# Altium integrated library Lattice FPGA MachXO2.IntLib: 444 symbols (part 21 of 39)
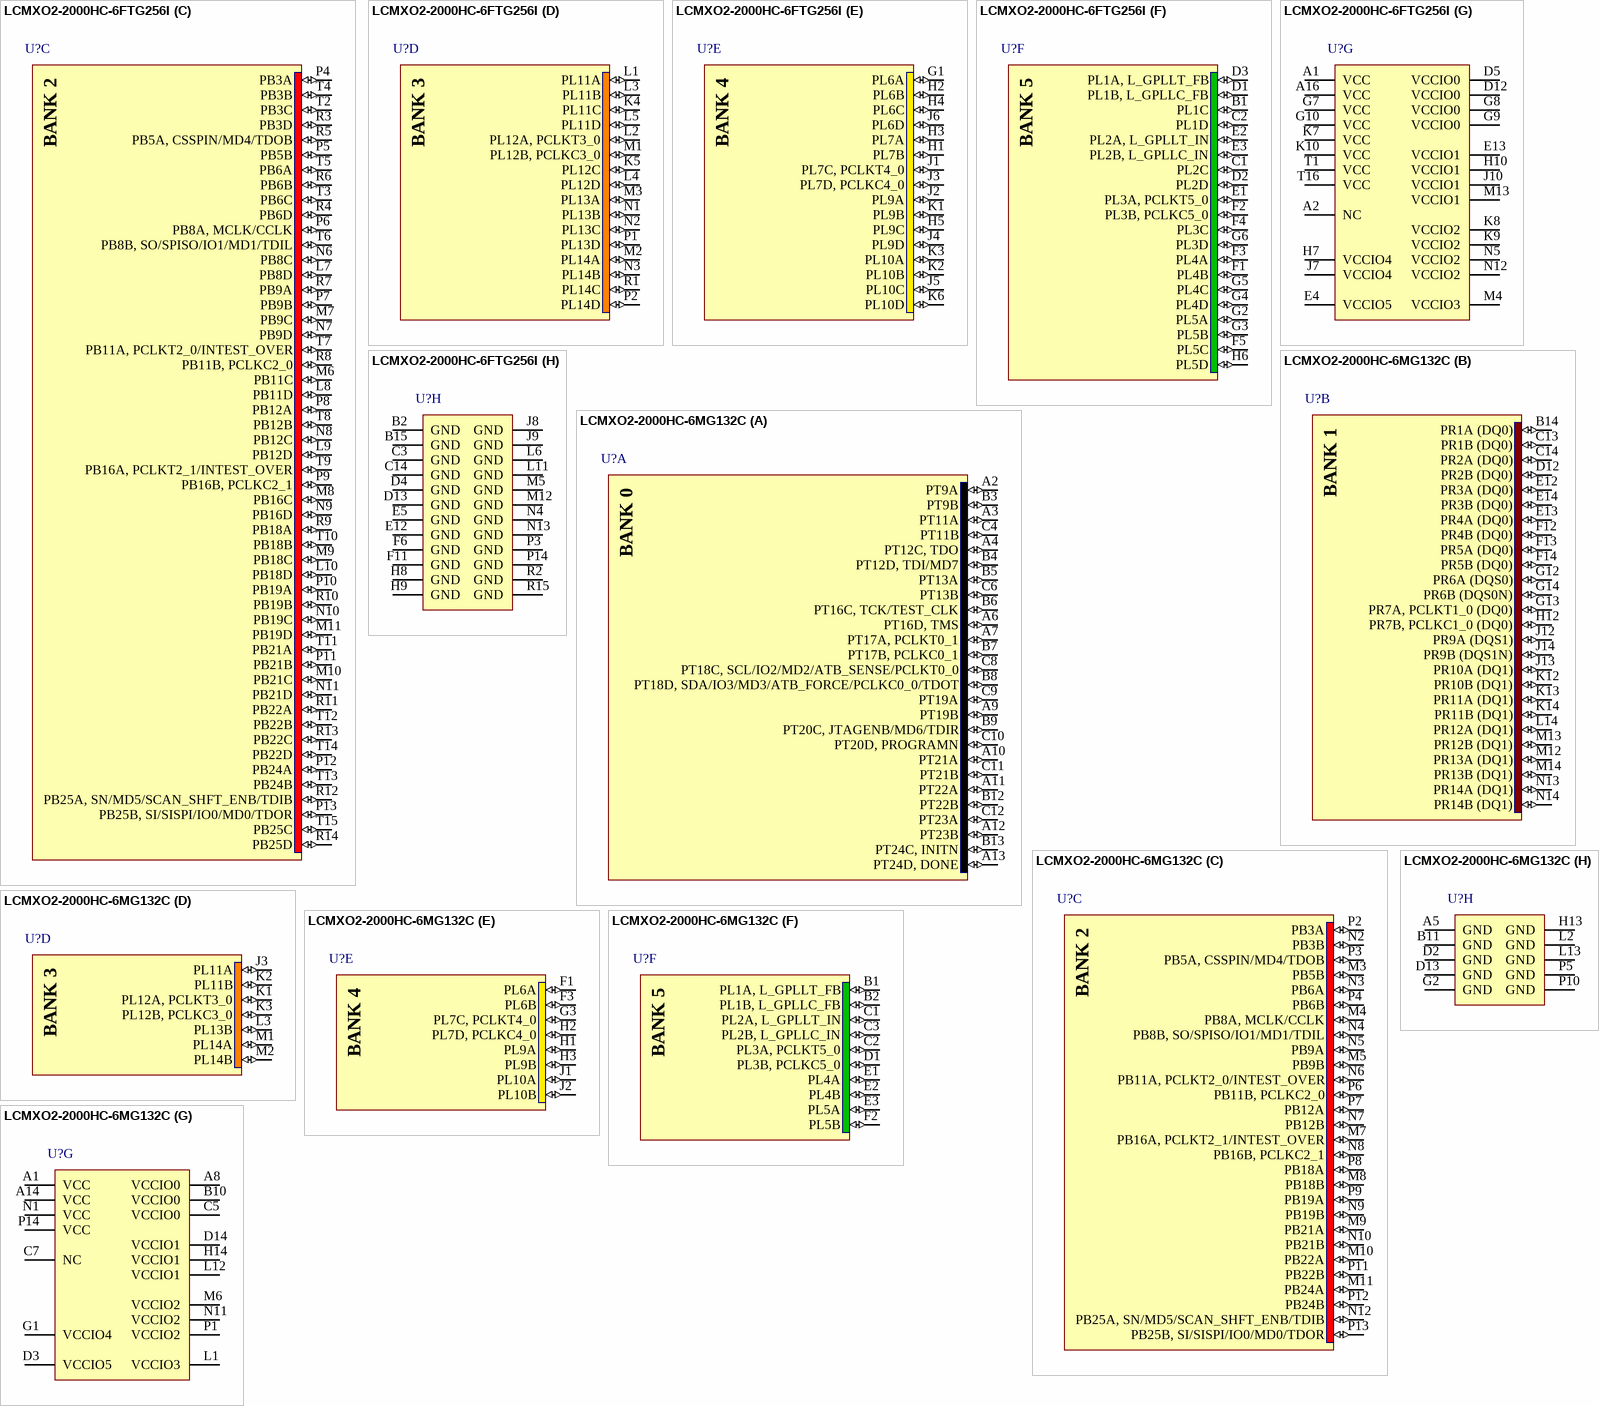
[diagram p334: symbols LCMXO2-2000HC-6FTG256I to LCMXO2-2000HC-6MG132C]

## LCMXO2-2000HC-6FTG256I
designator U?
MachXO2 High Performance CPLD with 2112 LUTs, Voltage Regulator, 2.5V/3.3V, 256-pin ftBGA, Speed Grade-6, Industrial Grade, Halogen Free (RoHS); DatasheetVersion: ver01.5, Aug-2011; PackageVersion: ver02.8, Jul-2011; PackageReference: ftBGA256; PackageDescription: 256-Ball Fine Thin Ball Grid Array (ftBGA256); ComponentLink1Description: Manufacturer URL; ComponentLink1URL: http://www.latticesemi.com/; ComponentLink2Description: Datasheet; ComponentLink2URL: http://www.latticesemi.com/documents/DS1035.pdf; ComponentLink3Description: Package Specification; ComponentLink3URL: http://www.latticesemi.com/lit/docs/package/pkg.pdf
footprint ftBGA256 (BGA, 256-Leads, Body 17x17mm, Pitch 1mm)
part A pins: A3 PT11C (io), A4 PT10A (io), A5 PT11A (io), A6 PT12D, TDI/MD7 (io), A7 PT16C, TCK/TEST_CLK (io), A8 PT17B, PCLKC0_1 (io), A9 PT18C, SCL/IO2/MD2/ATB_SENSE/PCLKT0_0 (io), A10 PT19B (io), A11 PT21A (io), A12 PT22B (io), A13 PT24C, INITN (io), A14 PT22D (io), A15 PT24B (io), B3 PT9C (io), B4 PT11D (io), B5 PT9B (io), B6 PT11B (io), B7 PT13A (io), B8 PT16D, TMS (io), B9 PT19A (io), B10 PT20D, PROGRAMN (io), B11 PT22A (io), B12 PT23B (io), B13 PT22C (io), B14 PT24A (io), C4 PT9A (io), C5 PT10B (io), C6 PT12C, TDO (io), C7 PT13B (io), C8 PT17A, PCLKT0_1 (io), C9 PT18D, SDA/IO3/MD3/ATB_FORCE/PCLKC0_0/TDOT (io), C10 PT20C, JTAGENB/MD6/TDIR (io), C11 PT21B (io), C12 PT23A (io), C13 PT24D, DONE (io), D6 PT12A (io), D7 PT13D (io), D8 PT17C (io), D9 PT18B (io), D10 PT20A (io), D11 PT21D (io), E6 PT13C (io), E7 PT12B (io), E8 PT16B (io), E9 PT17D (io), E10 PT20B (io), E11 PT19D (io), F7 PT16A (io), F8 PT18A (io), F9 PT19C (io), F10 PT21C (io)
part B pins: B16 PR1D (io), C15 PR1C (io), C16 PR2C (io), D14 PR1A (DQ0) (io), D15 PR2D (io), D16 PR2A (DQ0) (io), E14 PR2B (DQ0) (io), E15 PR1B (DQ0) (io), E16 PR3A (DQ0) (io), F12 PR4C (io), F13 PR3C (io), F14 PR4A (DQ0) (io), F15 PR3B (DQ0) (io), F16 PR4B (DQ0) (io), G11 PR5C (io), G12 PR3D (io), G13 PR4D (io), G14 PR5B (DQ0) (io), G15 PR5A (DQ0) (io), G16 PR6A (DQS0) (io), H11 PR9C (io), H12 PR5D (io), H13 PR6C (io), H14 PR7A, PCLKT1_0 (DQ0) (io), H15 PR6B (DQS0N) (io), H16 PR7B, PCLKC1_0 (DQ0) (io), J11 PR10C (io), J12 PR6D (io), J13 PR9D (io), J14 PR7D (io), J15 PR9A (DQS1) (io), J16 PR7C (io), K11 PR12C (io), K12 PR11D (DQ1) (io), K13 PR11C (DQ1) (io), K14 PR10A (DQ1) (io), K15 PR10B (DQ1) (io), K16 PR9B (DQS1N) (io), L12 PR10D (io), L13 PR12D (io), L14 PR11B (DQ1) (io), L15 PR12A (DQ1) (io), L16 PR11A (DQ1) (io), M14 PR13A (DQ1) (io), M15 PR13B (DQ1) (io), M16 PR12B (DQ1) (io), N14 PR14B (DQ1) (io), N15 PR13C (io), N16 PR14A (DQ1) (io), P15 PR14C (io), P16 PR13D (io), R16 PR14D (io)
part C pins: L7 PB8D (io), L8 PB11D (io), L9 PB12D (io), L10 PB18D (io), M6 PB11C (io), M7 PB9C (io), M8 PB16C (io), M9 PB18C (io), M10 PB21C (io), M11 PB19D (io), N6 PB8C (io), N7 PB9D (io), N8 PB12C (io), N9 PB16D (io), N10 PB19C (io), N11 PB21D (io), P4 PB3A (io), P5 PB5B (io), P6 PB8A, MCLK/CCLK (io), P7 PB9B (io), P8 PB12A (io), P9 PB16B, PCLKC2_1 (io), P10 PB19A (io), P11 PB21B (io), P12 PB24A (io), P13 PB25B, SI/SISPI/IO0/MD0/TDOR (io), R3 PB3D (io), R4 PB6D (io), R5 PB5A, CSSPIN/MD4/TDOB (io), R6 PB6B (io), R7 PB9A (io), R8 PB11B, PCLKC2_0 (io), R9 PB18A (io), R10 PB19B (io), R11 PB22A (io), R12 PB25A, SN/MD5/SCAN_SHFT_ENB/TDIB (io), R13 PB22C (io), R14 PB25D (io), T2 PB3C (io), T3 PB6C (io), T4 PB3B (io), T5 PB6A (io), T6 PB8B, SO/SPISO/IO1/MD1/TDIL (io), T7 PB11A, PCLKT2_0/INTEST_OVER (io), T8 PB12B (io), T9 PB16A, PCLKT2_1/INTEST_OVER (io), T10 PB18B (io), T11 PB21A (io), T12 PB22B (io), T13 PB24B (io), T14 PB22D (io), T15 PB25C (io)
part D pins: K4 PL11C (io), K5 PL12C (io), L1 PL11A (io), L2 PL12A, PCLKT3_0 (io), L3 PL11B (io), L4 PL12D (io), L5 PL11D (io), M1 PL12B, PCLKC3_0 (io), M2 PL14A (io), M3 PL13A (io), N1 PL13B (io), N2 PL13C (io), N3 PL14B (io), P1 PL13D (io), P2 PL14D (io), R1 PL14C (io)
part E pins: G1 PL6A (io), H1 PL7B (io), H2 PL6B (io), H3 PL7A (io), H4 PL6C (io), H5 PL9C (io), J1 PL7C, PCLKT4_0 (io), J2 PL9A (io), J3 PL7D, PCLKC4_0 (io), J4 PL9D (io), J5 PL10C (io), J6 PL6D (io), K1 PL9B (io), K2 PL10B (io), K3 PL10A (io), K6 PL10D (io)
part F pins: B1 PL1C (io), C1 PL2C (io), C2 PL1D (io), D1 PL1B, L_GPLLC_FB (io), D2 PL2D (io), D3 PL1A, L_GPLLT_FB (io), E1 PL3A, PCLKT5_0 (io), E2 PL2A, L_GPLLT_IN (io), E3 PL2B, L_GPLLC_IN (io), F1 PL4B (io), F2 PL3B, PCLKC5_0 (io), F3 PL4A (io), F4 PL3C (io), F5 PL5C (io), G2 PL5A (io), G3 PL5B (io), G4 PL4D (io), G5 PL4C (io), G6 PL3D (io), H6 PL5D (io)
part G pins: A1 VCC (power), A2 NC, A16 VCC (power), D5 VCCIO0 (power), D12 VCCIO0 (power), E4 VCCIO5 (power), E13 VCCIO1 (power), G7 VCC (power), G8 VCCIO0 (power), G9 VCCIO0 (power), G10 VCC (power), H7 VCCIO4 (power), H10 VCCIO1 (power), J7 VCCIO4 (power), J10 VCCIO1 (power), K7 VCC (power), K8 VCCIO2 (power), K9 VCCIO2 (power), K10 VCC (power), M4 VCCIO3 (power), M13 VCCIO1 (power), N5 VCCIO2 (power), N12 VCCIO2 (power), T1 VCC (power), T16 VCC (power)
part H pins: B2 GND (power), B15 GND (power), C3 GND (power), C14 GND (power), D4 GND (power), D13 GND (power), E5 GND (power), E12 GND (power), F6 GND (power), F11 GND (power), H8 GND (power), H9 GND (power), J8 GND (power), J9 GND (power), L6 GND (power), L11 GND (power), M5 GND (power), M12 GND (power), N4 GND (power), N13 GND (power), P3 GND (power), P14 GND (power), R2 GND (power), R15 GND (power)
part A text: BANK 0
part B text: BANK 1
part C text: BANK 2
part D text: BANK 3
part E text: BANK 4
part F text: BANK 5

## LCMXO2-2000HC-6MG132C
designator U?
MachXO2 High Performance CPLD with 2112 LUTs, Voltage Regulator, 2.5V/3.3V, 132-pin csBGA, Speed Grade-6, Commercial Grade, Halogen Free (RoHS); DatasheetVersion: ver01.5, Aug-2011; PackageVersion: ver02.8, Jul-2011; PackageReference: csBGA132; PackageDescription: 132-Ball Chip Scale Ball Grid Array (csBGA132); ComponentLink1Description: Manufacturer URL; ComponentLink1URL: http://www.latticesemi.com/; ComponentLink2Description: Datasheet; ComponentLink2URL: http://www.latticesemi.com/documents/DS1035.pdf; ComponentLink3Description: Package Specification; ComponentLink3URL: http://www.latticesemi.com/lit/docs/package/pkg.pdf
footprint csBGA132 (BGA, 132-Leads, Body 8x8mm, Pitch 0.5mm)
part A pins: A2 PT9A (io), A3 PT11A (io), A4 PT12C, TDO (io), A6 PT16D, TMS (io), A7 PT17A, PCLKT0_1 (io), A9 PT19B (io), A10 PT21A (io), A11 PT22A (io), A12 PT23B (io), A13 PT24D, DONE (io), B3 PT9B (io), B4 PT12D, TDI/MD7 (io), B5 PT13A (io), B6 PT16C, TCK/TEST_CLK (io), B7 PT17B, PCLKC0_1 (io), B8 PT18D, SDA/IO3/MD3/ATB_FORCE/PCLKC0_0/TDOT (io), B9 PT20C, JTAGENB/MD6/TDIR (io), B12 PT22B (io), B13 PT24C, INITN (io), C4 PT11B (io), C6 PT13B (io), C8 PT18C, SCL/IO2/MD2/ATB_SENSE/PCLKT0_0 (io), C9 PT19A (io), C10 PT20D, PROGRAMN (io), C11 PT21B (io), C12 PT23A (io)
part B pins: B14 PR1A (DQ0) (io), C13 PR1B (DQ0) (io), C14 PR2A (DQ0) (io), D12 PR2B (DQ0) (io), E12 PR3A (DQ0) (io), E13 PR4A (DQ0) (io), E14 PR3B (DQ0) (io), F12 PR4B (DQ0) (io), F13 PR5A (DQ0) (io), F14 PR5B (DQ0) (io), G12 PR6A (DQS0) (io), G13 PR7A, PCLKT1_0 (DQ0) (io), G14 PR6B (DQS0N) (io), H12 PR7B, PCLKC1_0 (DQ0) (io), J12 PR9A (DQS1) (io), J13 PR10A (DQ1) (io), J14 PR9B (DQS1N) (io), K12 PR10B (DQ1) (io), K13 PR11A (DQ1) (io), K14 PR11B (DQ1) (io), L14 PR12A (DQ1) (io), M12 PR13A (DQ1) (io), M13 PR12B (DQ1) (io), M14 PR13B (DQ1) (io), N13 PR14A (DQ1) (io), N14 PR14B (DQ1) (io)
part C pins: M3 PB5B (io), M4 PB8A, MCLK/CCLK (io), M5 PB9B (io), M7 PB16A, PCLKT2_1/INTEST_OVER (io), M8 PB18B (io), M9 PB21A (io), M10 PB22A (io), M11 PB24A (io), N2 PB3B (io), N3 PB6A (io), N4 PB8B, SO/SPISO/IO1/MD1/TDIL (io), N5 PB9A (io), N6 PB11A, PCLKT2_0/INTEST_OVER (io), N7 PB12B (io), N8 PB16B, PCLKC2_1 (io), N9 PB19B (io), N10 PB21B (io), N12 PB25A, SN/MD5/SCAN_SHFT_ENB/TDIB (io), P2 PB3A (io), P3 PB5A, CSSPIN/MD4/TDOB (io), P4 PB6B (io), P6 PB11B, PCLKC2_0 (io), P7 PB12A (io), P8 PB18A (io), P9 PB19A (io), P11 PB22B (io), P12 PB24B (io), P13 PB25B, SI/SISPI/IO0/MD0/TDOR (io)
part D pins: J3 PL11A (io), K1 PL12A, PCLKT3_0 (io), K2 PL11B (io), K3 PL12B, PCLKC3_0 (io), L3 PL13B (io), M1 PL14A (io), M2 PL14B (io)
part E pins: F1 PL6A (io), F3 PL6B (io), G3 PL7C, PCLKT4_0 (io), H1 PL9A (io), H2 PL7D, PCLKC4_0 (io), H3 PL9B (io), J1 PL10A (io), J2 PL10B (io)
part F pins: B1 PL1A, L_GPLLT_FB (io), B2 PL1B, L_GPLLC_FB (io), C1 PL2A, L_GPLLT_IN (io), C2 PL3A, PCLKT5_0 (io), C3 PL2B, L_GPLLC_IN (io), D1 PL3B, PCLKC5_0 (io), E1 PL4A (io), E2 PL4B (io), E3 PL5A (io), F2 PL5B (io)
part G pins: A1 VCC (power), A8 VCCIO0 (power), A14 VCC (power), B10 VCCIO0 (power), C5 VCCIO0 (power), C7 NC, D3 VCCIO5 (power), D14 VCCIO1 (power), G1 VCCIO4 (power), H14 VCCIO1 (power), L1 VCCIO3 (power), L12 VCCIO1 (power), M6 VCCIO2 (power), N1 VCC (power), N11 VCCIO2 (power), P1 VCCIO2 (power), P14 VCC (power)
part H pins: A5 GND (power), B11 GND (power), D2 GND (power), D13 GND (power), G2 GND (power), H13 GND (power), L2 GND (power), L13 GND (power), P5 GND (power), P10 GND (power)
part A text: BANK 0
part B text: BANK 1
part C text: BANK 2
part D text: BANK 3
part E text: BANK 4
part F text: BANK 5

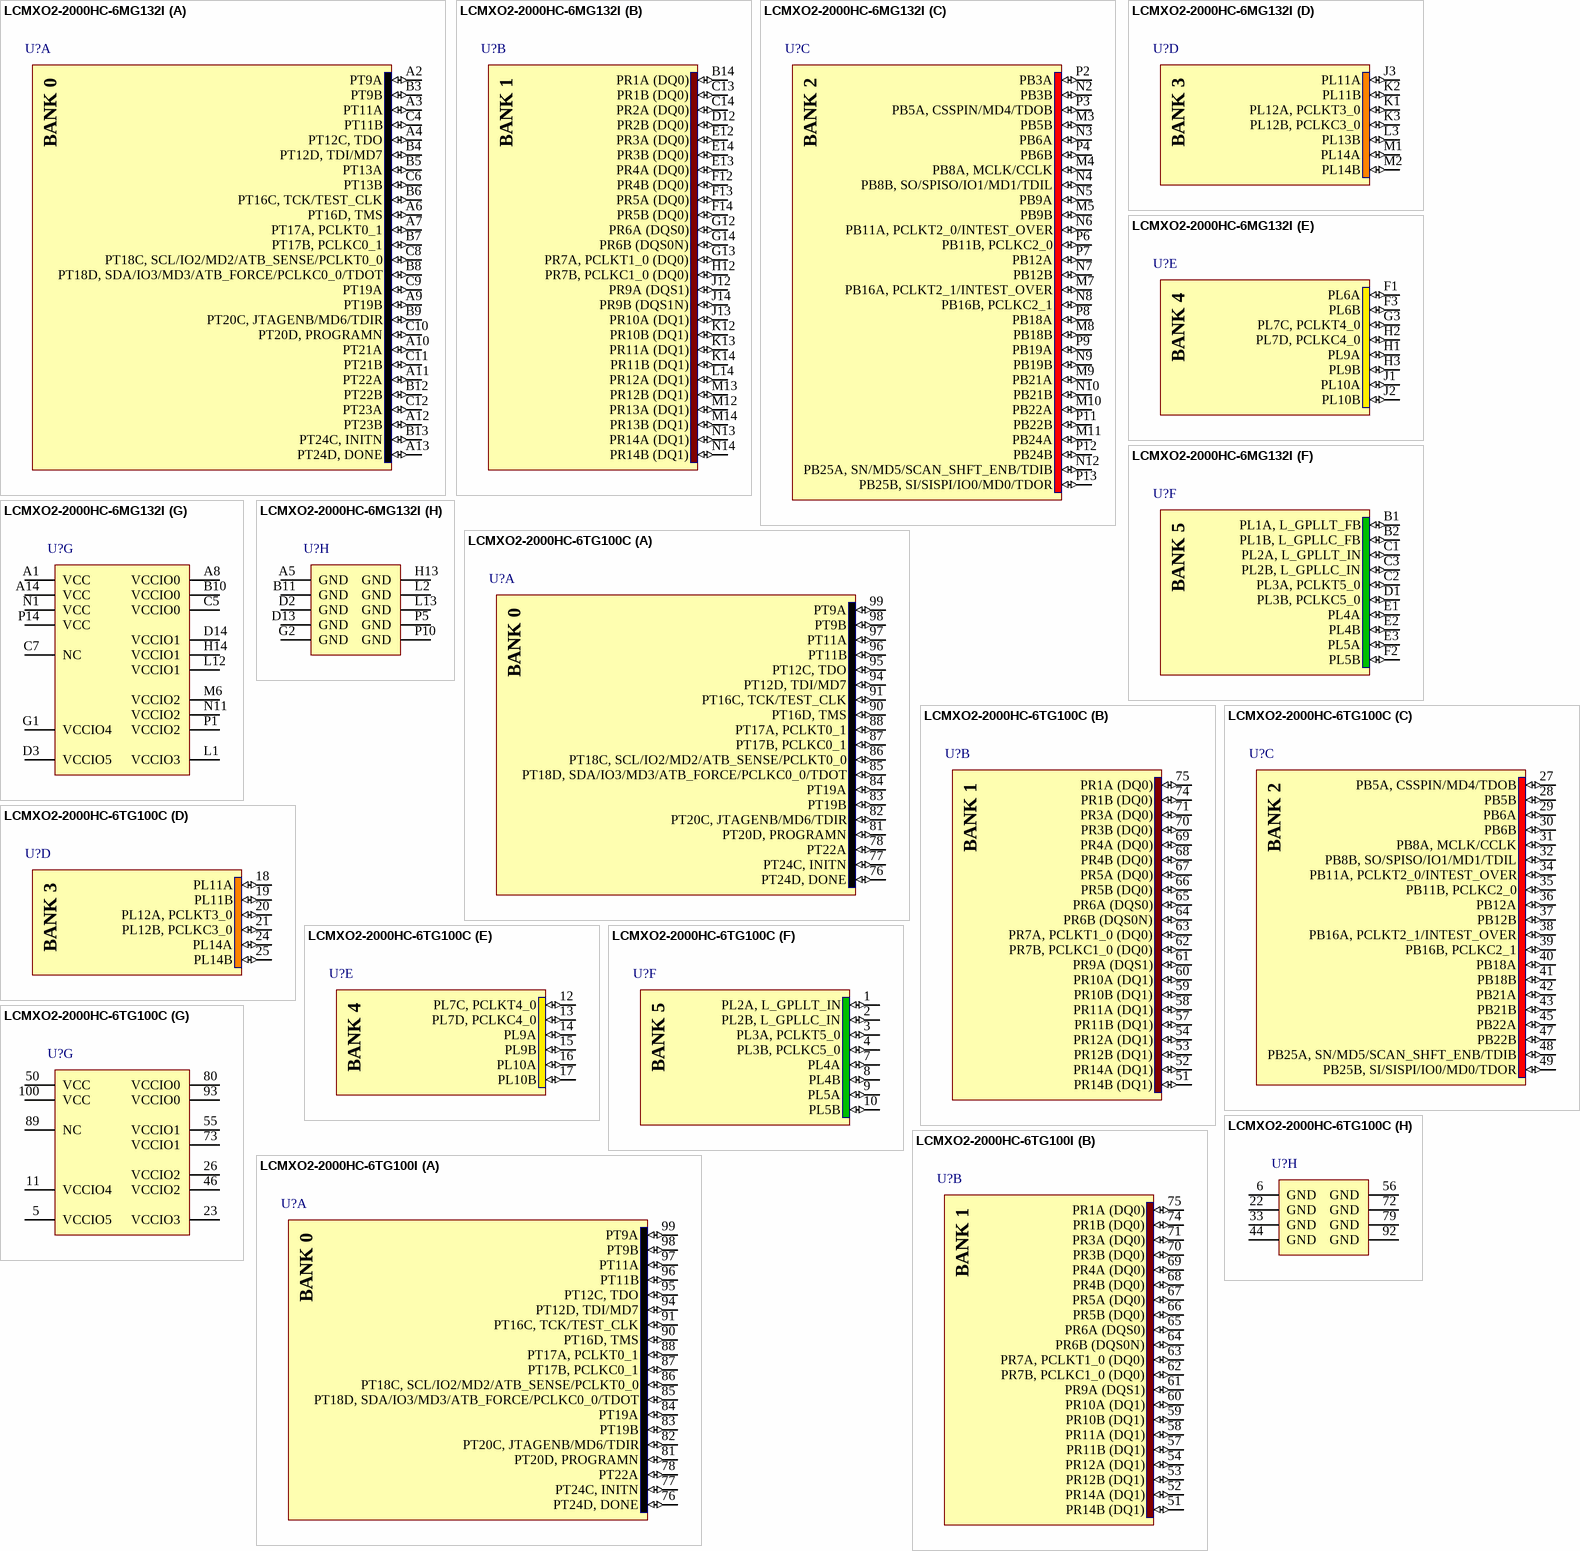
[diagram p77: symbols LCMXO2-2000HC-6MG132I to LCMXO2-2000HC-6TG100I]

## LCMXO2-2000HC-6MG132I
designator U?
MachXO2 High Performance CPLD with 2112 LUTs, Voltage Regulator, 2.5V/3.3V, 132-pin csBGA, Speed Grade-6, Industrial Grade, Halogen Free (RoHS); DatasheetVersion: ver01.5, Aug-2011; PackageVersion: ver02.8, Jul-2011; PackageReference: csBGA132; PackageDescription: 132-Ball Chip Scale Ball Grid Array (csBGA132); ComponentLink1Description: Manufacturer URL; ComponentLink1URL: http://www.latticesemi.com/; ComponentLink2Description: Datasheet; ComponentLink2URL: http://www.latticesemi.com/documents/DS1035.pdf; ComponentLink3Description: Package Specification; ComponentLink3URL: http://www.latticesemi.com/lit/docs/package/pkg.pdf
footprint csBGA132 (BGA, 132-Leads, Body 8x8mm, Pitch 0.5mm)
part A pins: A2 PT9A (io), A3 PT11A (io), A4 PT12C, TDO (io), A6 PT16D, TMS (io), A7 PT17A, PCLKT0_1 (io), A9 PT19B (io), A10 PT21A (io), A11 PT22A (io), A12 PT23B (io), A13 PT24D, DONE (io), B3 PT9B (io), B4 PT12D, TDI/MD7 (io), B5 PT13A (io), B6 PT16C, TCK/TEST_CLK (io), B7 PT17B, PCLKC0_1 (io), B8 PT18D, SDA/IO3/MD3/ATB_FORCE/PCLKC0_0/TDOT (io), B9 PT20C, JTAGENB/MD6/TDIR (io), B12 PT22B (io), B13 PT24C, INITN (io), C4 PT11B (io), C6 PT13B (io), C8 PT18C, SCL/IO2/MD2/ATB_SENSE/PCLKT0_0 (io), C9 PT19A (io), C10 PT20D, PROGRAMN (io), C11 PT21B (io), C12 PT23A (io)
part B pins: B14 PR1A (DQ0) (io), C13 PR1B (DQ0) (io), C14 PR2A (DQ0) (io), D12 PR2B (DQ0) (io), E12 PR3A (DQ0) (io), E13 PR4A (DQ0) (io), E14 PR3B (DQ0) (io), F12 PR4B (DQ0) (io), F13 PR5A (DQ0) (io), F14 PR5B (DQ0) (io), G12 PR6A (DQS0) (io), G13 PR7A, PCLKT1_0 (DQ0) (io), G14 PR6B (DQS0N) (io), H12 PR7B, PCLKC1_0 (DQ0) (io), J12 PR9A (DQS1) (io), J13 PR10A (DQ1) (io), J14 PR9B (DQS1N) (io), K12 PR10B (DQ1) (io), K13 PR11A (DQ1) (io), K14 PR11B (DQ1) (io), L14 PR12A (DQ1) (io), M12 PR13A (DQ1) (io), M13 PR12B (DQ1) (io), M14 PR13B (DQ1) (io), N13 PR14A (DQ1) (io), N14 PR14B (DQ1) (io)
part C pins: M3 PB5B (io), M4 PB8A, MCLK/CCLK (io), M5 PB9B (io), M7 PB16A, PCLKT2_1/INTEST_OVER (io), M8 PB18B (io), M9 PB21A (io), M10 PB22A (io), M11 PB24A (io), N2 PB3B (io), N3 PB6A (io), N4 PB8B, SO/SPISO/IO1/MD1/TDIL (io), N5 PB9A (io), N6 PB11A, PCLKT2_0/INTEST_OVER (io), N7 PB12B (io), N8 PB16B, PCLKC2_1 (io), N9 PB19B (io), N10 PB21B (io), N12 PB25A, SN/MD5/SCAN_SHFT_ENB/TDIB (io), P2 PB3A (io), P3 PB5A, CSSPIN/MD4/TDOB (io), P4 PB6B (io), P6 PB11B, PCLKC2_0 (io), P7 PB12A (io), P8 PB18A (io), P9 PB19A (io), P11 PB22B (io), P12 PB24B (io), P13 PB25B, SI/SISPI/IO0/MD0/TDOR (io)
part D pins: J3 PL11A (io), K1 PL12A, PCLKT3_0 (io), K2 PL11B (io), K3 PL12B, PCLKC3_0 (io), L3 PL13B (io), M1 PL14A (io), M2 PL14B (io)
part E pins: F1 PL6A (io), F3 PL6B (io), G3 PL7C, PCLKT4_0 (io), H1 PL9A (io), H2 PL7D, PCLKC4_0 (io), H3 PL9B (io), J1 PL10A (io), J2 PL10B (io)
part F pins: B1 PL1A, L_GPLLT_FB (io), B2 PL1B, L_GPLLC_FB (io), C1 PL2A, L_GPLLT_IN (io), C2 PL3A, PCLKT5_0 (io), C3 PL2B, L_GPLLC_IN (io), D1 PL3B, PCLKC5_0 (io), E1 PL4A (io), E2 PL4B (io), E3 PL5A (io), F2 PL5B (io)
part G pins: A1 VCC (power), A8 VCCIO0 (power), A14 VCC (power), B10 VCCIO0 (power), C5 VCCIO0 (power), C7 NC, D3 VCCIO5 (power), D14 VCCIO1 (power), G1 VCCIO4 (power), H14 VCCIO1 (power), L1 VCCIO3 (power), L12 VCCIO1 (power), M6 VCCIO2 (power), N1 VCC (power), N11 VCCIO2 (power), P1 VCCIO2 (power), P14 VCC (power)
part H pins: A5 GND (power), B11 GND (power), D2 GND (power), D13 GND (power), G2 GND (power), H13 GND (power), L2 GND (power), L13 GND (power), P5 GND (power), P10 GND (power)
part A text: BANK 0
part B text: BANK 1
part C text: BANK 2
part D text: BANK 3
part E text: BANK 4
part F text: BANK 5

## LCMXO2-2000HC-6TG100C
designator U?
MachXO2 High Performance CPLD with 2112 LUTs, Voltage Regulator, 2.5V/3.3V, 100-pin TQFP, Speed Grade-6, Commercial Grade, Halogen Free (RoHS); DatasheetVersion: ver01.5, Aug-2011; PackageVersion: ver02.8, Jul-2011; PackageReference: TQFP100; PackageDescription: 100-Pin Thin Quad Flat Pack (TQFP100); Code_JEDEC: MS-026-BED; ComponentLink1Description: Manufacturer URL; ComponentLink1URL: http://www.latticesemi.com/; ComponentLink2Description: Datasheet; ComponentLink2URL: http://www.latticesemi.com/documents/DS1035.pdf; ComponentLink3Description: Package Specification; ComponentLink3URL: http://www.latticesemi.com/lit/docs/package/pkg.pdf
footprint TQFP100_N (Thin QFP, 100-Leads, Body 14x14mm, Pitch 0.5mm, IPC Medium Density)
footprint TQFP100_L (Thin QFP, 100-Leads, Body 14x14mm, Pitch 0.5mm, IPC High Density)
footprint TQFP100_M (Thin QFP, 100-Leads, Body 14x14mm, Pitch 0.5mm, IPC Low Density)
part A pins: 76 PT24D, DONE (io), 77 PT24C, INITN (io), 78 PT22A (io), 81 PT20D, PROGRAMN (io), 82 PT20C, JTAGENB/MD6/TDIR (io), 83 PT19B (io), 84 PT19A (io), 85 PT18D, SDA/IO3/MD3/ATB_FORCE/PCLKC0_0/TDOT (io), 86 PT18C, SCL/IO2/MD2/ATB_SENSE/PCLKT0_0 (io), 87 PT17B, PCLKC0_1 (io), 88 PT17A, PCLKT0_1 (io), 90 PT16D, TMS (io), 91 PT16C, TCK/TEST_CLK (io), 94 PT12D, TDI/MD7 (io), 95 PT12C, TDO (io), 96 PT11B (io), 97 PT11A (io), 98 PT9B (io), 99 PT9A (io)
part B pins: 51 PR14B (DQ1) (io), 52 PR14A (DQ1) (io), 53 PR12B (DQ1) (io), 54 PR12A (DQ1) (io), 57 PR11B (DQ1) (io), 58 PR11A (DQ1) (io), 59 PR10B (DQ1) (io), 60 PR10A (DQ1) (io), 61 PR9A (DQS1) (io), 62 PR7B, PCLKC1_0 (DQ0) (io), 63 PR7A, PCLKT1_0 (DQ0) (io), 64 PR6B (DQS0N) (io), 65 PR6A (DQS0) (io), 66 PR5B (DQ0) (io), 67 PR5A (DQ0) (io), 68 PR4B (DQ0) (io), 69 PR4A (DQ0) (io), 70 PR3B (DQ0) (io), 71 PR3A (DQ0) (io), 74 PR1B (DQ0) (io), 75 PR1A (DQ0) (io)
part C pins: 27 PB5A, CSSPIN/MD4/TDOB (io), 28 PB5B (io), 29 PB6A (io), 30 PB6B (io), 31 PB8A, MCLK/CCLK (io), 32 PB8B, SO/SPISO/IO1/MD1/TDIL (io), 34 PB11A, PCLKT2_0/INTEST_OVER (io), 35 PB11B, PCLKC2_0 (io), 36 PB12A (io), 37 PB12B (io), 38 PB16A, PCLKT2_1/INTEST_OVER (io), 39 PB16B, PCLKC2_1 (io), 40 PB18A (io), 41 PB18B (io), 42 PB21A (io), 43 PB21B (io), 45 PB22A (io), 47 PB22B (io), 48 PB25A, SN/MD5/SCAN_SHFT_ENB/TDIB (io), 49 PB25B, SI/SISPI/IO0/MD0/TDOR (io)
part D pins: 18 PL11A (io), 19 PL11B (io), 20 PL12A, PCLKT3_0 (io), 21 PL12B, PCLKC3_0 (io), 24 PL14A (io), 25 PL14B (io)
part E pins: 12 PL7C, PCLKT4_0 (io), 13 PL7D, PCLKC4_0 (io), 14 PL9A (io), 15 PL9B (io), 16 PL10A (io), 17 PL10B (io)
part F pins: 1 PL2A, L_GPLLT_IN (io), 2 PL2B, L_GPLLC_IN (io), 3 PL3A, PCLKT5_0 (io), 4 PL3B, PCLKC5_0 (io), 7 PL4A (io), 8 PL4B (io), 9 PL5A (io), 10 PL5B (io)
part G pins: 5 VCCIO5 (power), 11 VCCIO4 (power), 23 VCCIO3 (power), 26 VCCIO2 (power), 46 VCCIO2 (power), 50 VCC (power), 55 VCCIO1 (power), 73 VCCIO1 (power), 80 VCCIO0 (power), 89 NC, 93 VCCIO0 (power), 100 VCC (power)
part H pins: 6 GND (power), 22 GND (power), 33 GND (power), 44 GND (power), 56 GND (power), 72 GND (power), 79 GND (power), 92 GND (power)
part A text: BANK 0
part B text: BANK 1
part C text: BANK 2
part D text: BANK 3
part E text: BANK 4
part F text: BANK 5

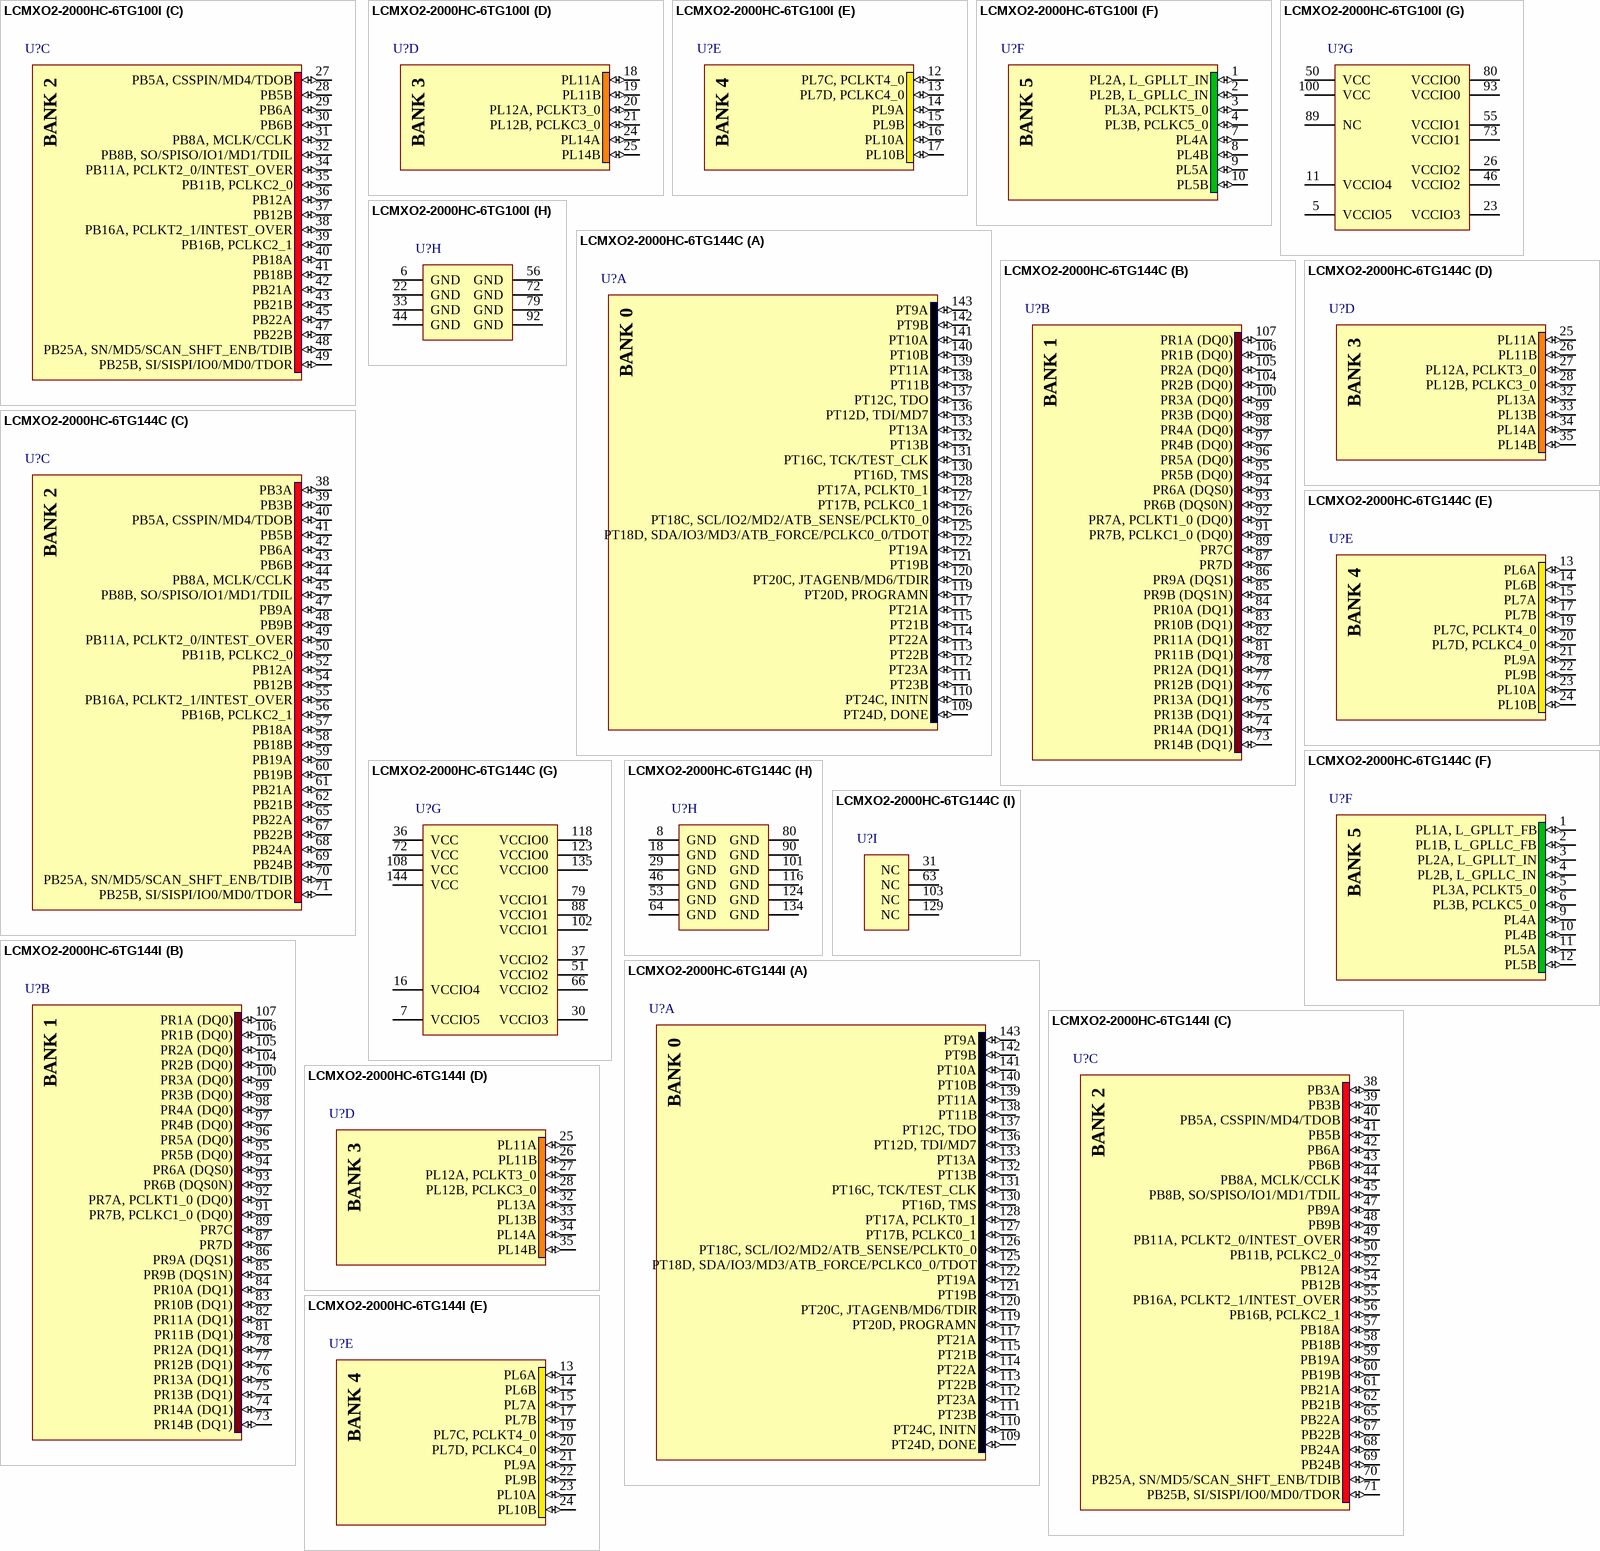
[diagram p78: symbols LCMXO2-2000HC-6TG100I to LCMXO2-2000HC-6TG144I]

## LCMXO2-2000HC-6TG100I
designator U?
MachXO2 High Performance CPLD with 2112 LUTs, Voltage Regulator, 2.5V/3.3V, 100-pin TQFP, Speed Grade-6, Industrial Grade, Halogen Free (RoHS); DatasheetVersion: ver01.5, Aug-2011; PackageVersion: ver02.8, Jul-2011; PackageReference: TQFP100; PackageDescription: 100-Pin Thin Quad Flat Pack (TQFP100); Code_JEDEC: MS-026-BED; ComponentLink1Description: Manufacturer URL; ComponentLink1URL: http://www.latticesemi.com/; ComponentLink2Description: Datasheet; ComponentLink2URL: http://www.latticesemi.com/documents/DS1035.pdf; ComponentLink3Description: Package Specification; ComponentLink3URL: http://www.latticesemi.com/lit/docs/package/pkg.pdf
footprint TQFP100_N (Thin QFP, 100-Leads, Body 14x14mm, Pitch 0.5mm, IPC Medium Density)
footprint TQFP100_L (Thin QFP, 100-Leads, Body 14x14mm, Pitch 0.5mm, IPC High Density)
footprint TQFP100_M (Thin QFP, 100-Leads, Body 14x14mm, Pitch 0.5mm, IPC Low Density)
part A pins: 76 PT24D, DONE (io), 77 PT24C, INITN (io), 78 PT22A (io), 81 PT20D, PROGRAMN (io), 82 PT20C, JTAGENB/MD6/TDIR (io), 83 PT19B (io), 84 PT19A (io), 85 PT18D, SDA/IO3/MD3/ATB_FORCE/PCLKC0_0/TDOT (io), 86 PT18C, SCL/IO2/MD2/ATB_SENSE/PCLKT0_0 (io), 87 PT17B, PCLKC0_1 (io), 88 PT17A, PCLKT0_1 (io), 90 PT16D, TMS (io), 91 PT16C, TCK/TEST_CLK (io), 94 PT12D, TDI/MD7 (io), 95 PT12C, TDO (io), 96 PT11B (io), 97 PT11A (io), 98 PT9B (io), 99 PT9A (io)
part B pins: 51 PR14B (DQ1) (io), 52 PR14A (DQ1) (io), 53 PR12B (DQ1) (io), 54 PR12A (DQ1) (io), 57 PR11B (DQ1) (io), 58 PR11A (DQ1) (io), 59 PR10B (DQ1) (io), 60 PR10A (DQ1) (io), 61 PR9A (DQS1) (io), 62 PR7B, PCLKC1_0 (DQ0) (io), 63 PR7A, PCLKT1_0 (DQ0) (io), 64 PR6B (DQS0N) (io), 65 PR6A (DQS0) (io), 66 PR5B (DQ0) (io), 67 PR5A (DQ0) (io), 68 PR4B (DQ0) (io), 69 PR4A (DQ0) (io), 70 PR3B (DQ0) (io), 71 PR3A (DQ0) (io), 74 PR1B (DQ0) (io), 75 PR1A (DQ0) (io)
part C pins: 27 PB5A, CSSPIN/MD4/TDOB (io), 28 PB5B (io), 29 PB6A (io), 30 PB6B (io), 31 PB8A, MCLK/CCLK (io), 32 PB8B, SO/SPISO/IO1/MD1/TDIL (io), 34 PB11A, PCLKT2_0/INTEST_OVER (io), 35 PB11B, PCLKC2_0 (io), 36 PB12A (io), 37 PB12B (io), 38 PB16A, PCLKT2_1/INTEST_OVER (io), 39 PB16B, PCLKC2_1 (io), 40 PB18A (io), 41 PB18B (io), 42 PB21A (io), 43 PB21B (io), 45 PB22A (io), 47 PB22B (io), 48 PB25A, SN/MD5/SCAN_SHFT_ENB/TDIB (io), 49 PB25B, SI/SISPI/IO0/MD0/TDOR (io)
part D pins: 18 PL11A (io), 19 PL11B (io), 20 PL12A, PCLKT3_0 (io), 21 PL12B, PCLKC3_0 (io), 24 PL14A (io), 25 PL14B (io)
part E pins: 12 PL7C, PCLKT4_0 (io), 13 PL7D, PCLKC4_0 (io), 14 PL9A (io), 15 PL9B (io), 16 PL10A (io), 17 PL10B (io)
part F pins: 1 PL2A, L_GPLLT_IN (io), 2 PL2B, L_GPLLC_IN (io), 3 PL3A, PCLKT5_0 (io), 4 PL3B, PCLKC5_0 (io), 7 PL4A (io), 8 PL4B (io), 9 PL5A (io), 10 PL5B (io)
part G pins: 5 VCCIO5 (power), 11 VCCIO4 (power), 23 VCCIO3 (power), 26 VCCIO2 (power), 46 VCCIO2 (power), 50 VCC (power), 55 VCCIO1 (power), 73 VCCIO1 (power), 80 VCCIO0 (power), 89 NC, 93 VCCIO0 (power), 100 VCC (power)
part H pins: 6 GND (power), 22 GND (power), 33 GND (power), 44 GND (power), 56 GND (power), 72 GND (power), 79 GND (power), 92 GND (power)
part A text: BANK 0
part B text: BANK 1
part C text: BANK 2
part D text: BANK 3
part E text: BANK 4
part F text: BANK 5

## LCMXO2-2000HC-6TG144C
designator U?
MachXO2 High Performance CPLD with 2112 LUTs, Voltage Regulator, 2.5V/3.3V, 144-pin TQFP, Speed Grade-6, Commercial Grade, Halogen Free (RoHS); DatasheetVersion: ver01.5, Aug-2011; PackageVersion: ver02.8, Jul-2011; PackageReference: TQFP144; PackageDescription: 144-Pin Thin Quad Flat Pack (TQFP144); Code_JEDEC: MS-026-BFB; ComponentLink1Description: Manufacturer URL; ComponentLink1URL: http://www.latticesemi.com/; ComponentLink2Description: Datasheet; ComponentLink2URL: http://www.latticesemi.com/documents/DS1035.pdf; ComponentLink3Description: Package Specification; ComponentLink3URL: http://www.latticesemi.com/lit/docs/package/pkg.pdf
footprint TQFP144_N (Thin QFP, 144-Leads, Body 20x20mm, Pitch 0.5mm, IPC Medium Density)
footprint TQFP144_L (Thin QFP, 144-Leads, Body 20x20mm, Pitch 0.5mm, IPC High Density)
footprint TQFP144_M (Thin QFP, 144-Leads, Body 20x20mm, Pitch 0.5mm, IPC Low Density)
part A pins: 109 PT24D, DONE (io), 110 PT24C, INITN (io), 111 PT23B (io), 112 PT23A (io), 113 PT22B (io), 114 PT22A (io), 115 PT21B (io), 117 PT21A (io), 119 PT20D, PROGRAMN (io), 120 PT20C, JTAGENB/MD6/TDIR (io), 121 PT19B (io), 122 PT19A (io), 125 PT18D, SDA/IO3/MD3/ATB_FORCE/PCLKC0_0/TDOT (io), 126 PT18C, SCL/IO2/MD2/ATB_SENSE/PCLKT0_0 (io), 127 PT17B, PCLKC0_1 (io), 128 PT17A, PCLKT0_1 (io), 130 PT16D, TMS (io), 131 PT16C, TCK/TEST_CLK (io), 132 PT13B (io), 133 PT13A (io), 136 PT12D, TDI/MD7 (io), 137 PT12C, TDO (io), 138 PT11B (io), 139 PT11A (io), 140 PT10B (io), 141 PT10A (io), 142 PT9B (io), 143 PT9A (io)
part B pins: 73 PR14B (DQ1) (io), 74 PR14A (DQ1) (io), 75 PR13B (DQ1) (io), 76 PR13A (DQ1) (io), 77 PR12B (DQ1) (io), 78 PR12A (DQ1) (io), 81 PR11B (DQ1) (io), 82 PR11A (DQ1) (io), 83 PR10B (DQ1) (io), 84 PR10A (DQ1) (io), 85 PR9B (DQS1N) (io), 86 PR9A (DQS1) (io), 87 PR7D (io), 89 PR7C (io), 91 PR7B, PCLKC1_0 (DQ0) (io), 92 PR7A, PCLKT1_0 (DQ0) (io), 93 PR6B (DQS0N) (io), 94 PR6A (DQS0) (io), 95 PR5B (DQ0) (io), 96 PR5A (DQ0) (io), 97 PR4B (DQ0) (io), 98 PR4A (DQ0) (io), 99 PR3B (DQ0) (io), 100 PR3A (DQ0) (io), 104 PR2B (DQ0) (io), 105 PR2A (DQ0) (io), 106 PR1B (DQ0) (io), 107 PR1A (DQ0) (io)
part C pins: 38 PB3A (io), 39 PB3B (io), 40 PB5A, CSSPIN/MD4/TDOB (io), 41 PB5B (io), 42 PB6A (io), 43 PB6B (io), 44 PB8A, MCLK/CCLK (io), 45 PB8B, SO/SPISO/IO1/MD1/TDIL (io), 47 PB9A (io), 48 PB9B (io), 49 PB11A, PCLKT2_0/INTEST_OVER (io), 50 PB11B, PCLKC2_0 (io), 52 PB12A (io), 54 PB12B (io), 55 PB16A, PCLKT2_1/INTEST_OVER (io), 56 PB16B, PCLKC2_1 (io), 57 PB18A (io), 58 PB18B (io), 59 PB19A (io), 60 PB19B (io), 61 PB21A (io), 62 PB21B (io), 65 PB22A (io), 67 PB22B (io), 68 PB24A (io), 69 PB24B (io), 70 PB25A, SN/MD5/SCAN_SHFT_ENB/TDIB (io), 71 PB25B, SI/SISPI/IO0/MD0/TDOR (io)
part D pins: 25 PL11A (io), 26 PL11B (io), 27 PL12A, PCLKT3_0 (io), 28 PL12B, PCLKC3_0 (io), 32 PL13A (io), 33 PL13B (io), 34 PL14A (io), 35 PL14B (io)
part E pins: 13 PL6A (io), 14 PL6B (io), 15 PL7A (io), 17 PL7B (io), 19 PL7C, PCLKT4_0 (io), 20 PL7D, PCLKC4_0 (io), 21 PL9A (io), 22 PL9B (io), 23 PL10A (io), 24 PL10B (io)
part F pins: 1 PL1A, L_GPLLT_FB (io), 2 PL1B, L_GPLLC_FB (io), 3 PL2A, L_GPLLT_IN (io), 4 PL2B, L_GPLLC_IN (io), 5 PL3A, PCLKT5_0 (io), 6 PL3B, PCLKC5_0 (io), 9 PL4A (io), 10 PL4B (io), 11 PL5A (io), 12 PL5B (io)
part G pins: 7 VCCIO5 (power), 16 VCCIO4 (power), 30 VCCIO3 (power), 36 VCC (power), 37 VCCIO2 (power), 51 VCCIO2 (power), 66 VCCIO2 (power), 72 VCC (power), 79 VCCIO1 (power), 88 VCCIO1 (power), 102 VCCIO1 (power), 108 VCC (power), 118 VCCIO0 (power), 123 VCCIO0 (power), 135 VCCIO0 (power), 144 VCC (power)
part H pins: 8 GND (power), 18 GND (power), 29 GND (power), 46 GND (power), 53 GND (power), 64 GND (power), 80 GND (power), 90 GND (power), 101 GND (power), 116 GND (power), 124 GND (power), 134 GND (power)
part I pins: 31 NC, 63 NC, 103 NC, 129 NC
part A text: BANK 0
part B text: BANK 1
part C text: BANK 2
part D text: BANK 3
part E text: BANK 4
part F text: BANK 5

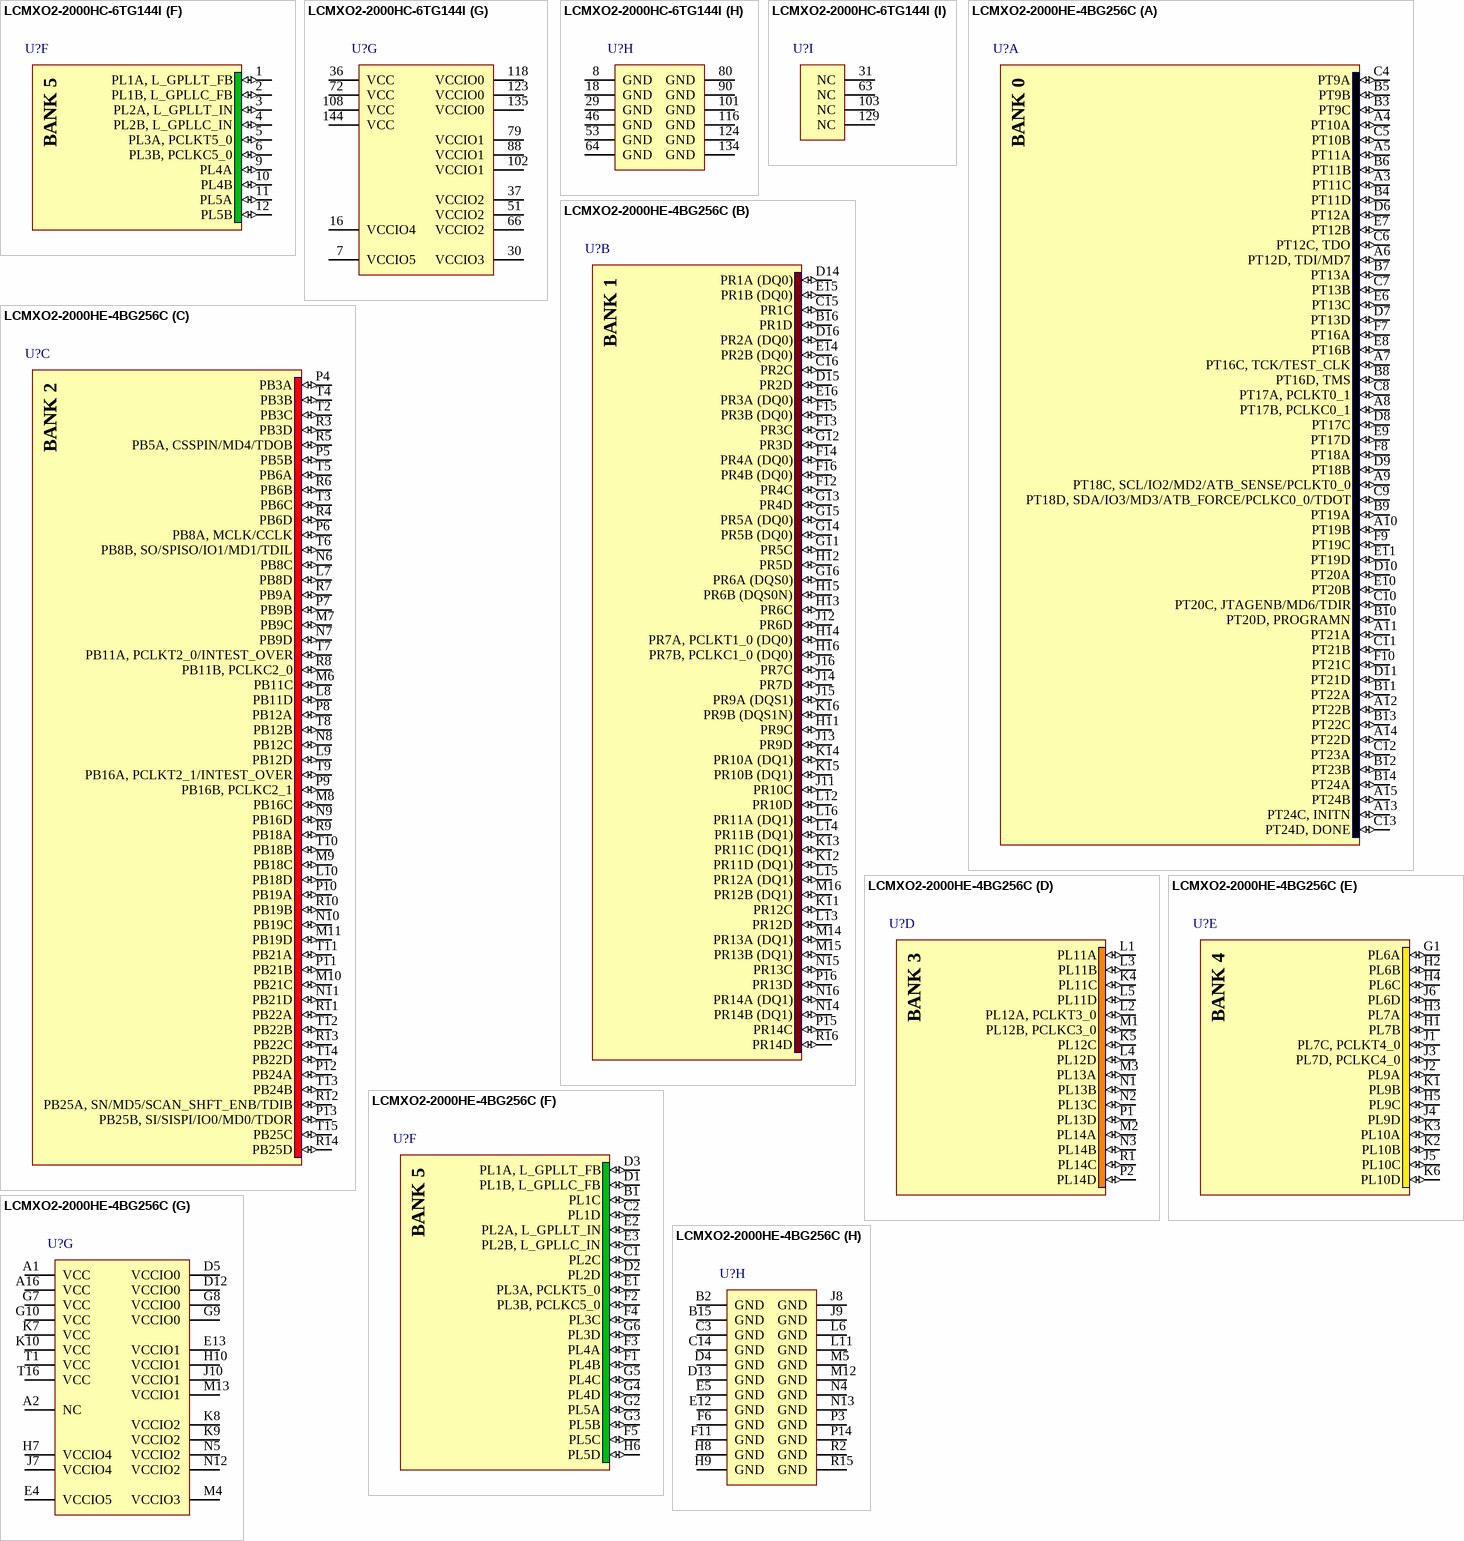
[diagram p79: symbols LCMXO2-2000HC-6TG144I to LCMXO2-2000HE-4BG256C]

## LCMXO2-2000HC-6TG144I
designator U?
MachXO2 High Performance CPLD with 2112 LUTs, Voltage Regulator, 2.5V/3.3V, 144-pin TQFP, Speed Grade-6, Industrial Grade, Halogen Free (RoHS); DatasheetVersion: ver01.5, Aug-2011; PackageVersion: ver02.8, Jul-2011; PackageReference: TQFP144; PackageDescription: 144-Pin Thin Quad Flat Pack (TQFP144); Code_JEDEC: MS-026-BFB; ComponentLink1Description: Manufacturer URL; ComponentLink1URL: http://www.latticesemi.com/; ComponentLink2Description: Datasheet; ComponentLink2URL: http://www.latticesemi.com/documents/DS1035.pdf; ComponentLink3Description: Package Specification; ComponentLink3URL: http://www.latticesemi.com/lit/docs/package/pkg.pdf
footprint TQFP144_N (Thin QFP, 144-Leads, Body 20x20mm, Pitch 0.5mm, IPC Medium Density)
footprint TQFP144_L (Thin QFP, 144-Leads, Body 20x20mm, Pitch 0.5mm, IPC High Density)
footprint TQFP144_M (Thin QFP, 144-Leads, Body 20x20mm, Pitch 0.5mm, IPC Low Density)
part A pins: 109 PT24D, DONE (io), 110 PT24C, INITN (io), 111 PT23B (io), 112 PT23A (io), 113 PT22B (io), 114 PT22A (io), 115 PT21B (io), 117 PT21A (io), 119 PT20D, PROGRAMN (io), 120 PT20C, JTAGENB/MD6/TDIR (io), 121 PT19B (io), 122 PT19A (io), 125 PT18D, SDA/IO3/MD3/ATB_FORCE/PCLKC0_0/TDOT (io), 126 PT18C, SCL/IO2/MD2/ATB_SENSE/PCLKT0_0 (io), 127 PT17B, PCLKC0_1 (io), 128 PT17A, PCLKT0_1 (io), 130 PT16D, TMS (io), 131 PT16C, TCK/TEST_CLK (io), 132 PT13B (io), 133 PT13A (io), 136 PT12D, TDI/MD7 (io), 137 PT12C, TDO (io), 138 PT11B (io), 139 PT11A (io), 140 PT10B (io), 141 PT10A (io), 142 PT9B (io), 143 PT9A (io)
part B pins: 73 PR14B (DQ1) (io), 74 PR14A (DQ1) (io), 75 PR13B (DQ1) (io), 76 PR13A (DQ1) (io), 77 PR12B (DQ1) (io), 78 PR12A (DQ1) (io), 81 PR11B (DQ1) (io), 82 PR11A (DQ1) (io), 83 PR10B (DQ1) (io), 84 PR10A (DQ1) (io), 85 PR9B (DQS1N) (io), 86 PR9A (DQS1) (io), 87 PR7D (io), 89 PR7C (io), 91 PR7B, PCLKC1_0 (DQ0) (io), 92 PR7A, PCLKT1_0 (DQ0) (io), 93 PR6B (DQS0N) (io), 94 PR6A (DQS0) (io), 95 PR5B (DQ0) (io), 96 PR5A (DQ0) (io), 97 PR4B (DQ0) (io), 98 PR4A (DQ0) (io), 99 PR3B (DQ0) (io), 100 PR3A (DQ0) (io), 104 PR2B (DQ0) (io), 105 PR2A (DQ0) (io), 106 PR1B (DQ0) (io), 107 PR1A (DQ0) (io)
part C pins: 38 PB3A (io), 39 PB3B (io), 40 PB5A, CSSPIN/MD4/TDOB (io), 41 PB5B (io), 42 PB6A (io), 43 PB6B (io), 44 PB8A, MCLK/CCLK (io), 45 PB8B, SO/SPISO/IO1/MD1/TDIL (io), 47 PB9A (io), 48 PB9B (io), 49 PB11A, PCLKT2_0/INTEST_OVER (io), 50 PB11B, PCLKC2_0 (io), 52 PB12A (io), 54 PB12B (io), 55 PB16A, PCLKT2_1/INTEST_OVER (io), 56 PB16B, PCLKC2_1 (io), 57 PB18A (io), 58 PB18B (io), 59 PB19A (io), 60 PB19B (io), 61 PB21A (io), 62 PB21B (io), 65 PB22A (io), 67 PB22B (io), 68 PB24A (io), 69 PB24B (io), 70 PB25A, SN/MD5/SCAN_SHFT_ENB/TDIB (io), 71 PB25B, SI/SISPI/IO0/MD0/TDOR (io)
part D pins: 25 PL11A (io), 26 PL11B (io), 27 PL12A, PCLKT3_0 (io), 28 PL12B, PCLKC3_0 (io), 32 PL13A (io), 33 PL13B (io), 34 PL14A (io), 35 PL14B (io)
part E pins: 13 PL6A (io), 14 PL6B (io), 15 PL7A (io), 17 PL7B (io), 19 PL7C, PCLKT4_0 (io), 20 PL7D, PCLKC4_0 (io), 21 PL9A (io), 22 PL9B (io), 23 PL10A (io), 24 PL10B (io)
part F pins: 1 PL1A, L_GPLLT_FB (io), 2 PL1B, L_GPLLC_FB (io), 3 PL2A, L_GPLLT_IN (io), 4 PL2B, L_GPLLC_IN (io), 5 PL3A, PCLKT5_0 (io), 6 PL3B, PCLKC5_0 (io), 9 PL4A (io), 10 PL4B (io), 11 PL5A (io), 12 PL5B (io)
part G pins: 7 VCCIO5 (power), 16 VCCIO4 (power), 30 VCCIO3 (power), 36 VCC (power), 37 VCCIO2 (power), 51 VCCIO2 (power), 66 VCCIO2 (power), 72 VCC (power), 79 VCCIO1 (power), 88 VCCIO1 (power), 102 VCCIO1 (power), 108 VCC (power), 118 VCCIO0 (power), 123 VCCIO0 (power), 135 VCCIO0 (power), 144 VCC (power)
part H pins: 8 GND (power), 18 GND (power), 29 GND (power), 46 GND (power), 53 GND (power), 64 GND (power), 80 GND (power), 90 GND (power), 101 GND (power), 116 GND (power), 124 GND (power), 134 GND (power)
part I pins: 31 NC, 63 NC, 103 NC, 129 NC
part A text: BANK 0
part B text: BANK 1
part C text: BANK 2
part D text: BANK 3
part E text: BANK 4
part F text: BANK 5

## LCMXO2-2000HE-4BG256C
designator U?
MachXO2 High Performance CPLD with 2112 LUTs, 1.2V, 256-pin caBGA, Speed Grade-4, Commercial Grade, Halogen Free (RoHS); DatasheetVersion: ver01.5, Aug-2011; PackageVersion: ver02.8, Jul-2011; PackageReference: caBGA256; PackageDescription: 256-Ball caBGA Package, 14 x 14 mm Body, 0.8 mm Pitch; Code_JEDEC: MO-275-JJAB-2; ComponentLink1Description: Manufacturer URL; ComponentLink1URL: http://www.latticesemi.com/; ComponentLink2Description: Datasheet; ComponentLink2URL: http://www.latticesemi.com/documents/DS1035.pdf; ComponentLink3Description: Package Specification; ComponentLink3URL: http://www.latticesemi.com/lit/docs/package/pkg.pdf
footprint caBGA256 (BGA, 256-Leads, Body 14x14mm, Pitch 0.8mm, Nominal Pad Dia. 0.4mm, Lattice Recommended)
part A pins: A3 PT11C (io), A4 PT10A (io), A5 PT11A (io), A6 PT12D, TDI/MD7 (io), A7 PT16C, TCK/TEST_CLK (io), A8 PT17B, PCLKC0_1 (io), A9 PT18C, SCL/IO2/MD2/ATB_SENSE/PCLKT0_0 (io), A10 PT19B (io), A11 PT21A (io), A12 PT22B (io), A13 PT24C, INITN (io), A14 PT22D (io), A15 PT24B (io), B3 PT9C (io), B4 PT11D (io), B5 PT9B (io), B6 PT11B (io), B7 PT13A (io), B8 PT16D, TMS (io), B9 PT19A (io), B10 PT20D, PROGRAMN (io), B11 PT22A (io), B12 PT23B (io), B13 PT22C (io), B14 PT24A (io), C4 PT9A (io), C5 PT10B (io), C6 PT12C, TDO (io), C7 PT13B (io), C8 PT17A, PCLKT0_1 (io), C9 PT18D, SDA/IO3/MD3/ATB_FORCE/PCLKC0_0/TDOT (io), C10 PT20C, JTAGENB/MD6/TDIR (io), C11 PT21B (io), C12 PT23A (io), C13 PT24D, DONE (io), D6 PT12A (io), D7 PT13D (io), D8 PT17C (io), D9 PT18B (io), D10 PT20A (io), D11 PT21D (io), E6 PT13C (io), E7 PT12B (io), E8 PT16B (io), E9 PT17D (io), E10 PT20B (io), E11 PT19D (io), F7 PT16A (io), F8 PT18A (io), F9 PT19C (io), F10 PT21C (io)
part B pins: B16 PR1D (io), C15 PR1C (io), C16 PR2C (io), D14 PR1A (DQ0) (io), D15 PR2D (io), D16 PR2A (DQ0) (io), E14 PR2B (DQ0) (io), E15 PR1B (DQ0) (io), E16 PR3A (DQ0) (io), F12 PR4C (io), F13 PR3C (io), F14 PR4A (DQ0) (io), F15 PR3B (DQ0) (io), F16 PR4B (DQ0) (io), G11 PR5C (io), G12 PR3D (io), G13 PR4D (io), G14 PR5B (DQ0) (io), G15 PR5A (DQ0) (io), G16 PR6A (DQS0) (io), H11 PR9C (io), H12 PR5D (io), H13 PR6C (io), H14 PR7A, PCLKT1_0 (DQ0) (io), H15 PR6B (DQS0N) (io), H16 PR7B, PCLKC1_0 (DQ0) (io), J11 PR10C (io), J12 PR6D (io), J13 PR9D (io), J14 PR7D (io), J15 PR9A (DQS1) (io), J16 PR7C (io), K11 PR12C (io), K12 PR11D (DQ1) (io), K13 PR11C (DQ1) (io), K14 PR10A (DQ1) (io), K15 PR10B (DQ1) (io), K16 PR9B (DQS1N) (io), L12 PR10D (io), L13 PR12D (io), L14 PR11B (DQ1) (io), L15 PR12A (DQ1) (io), L16 PR11A (DQ1) (io), M14 PR13A (DQ1) (io), M15 PR13B (DQ1) (io), M16 PR12B (DQ1) (io), N14 PR14B (DQ1) (io), N15 PR13C (io), N16 PR14A (DQ1) (io), P15 PR14C (io), P16 PR13D (io), R16 PR14D (io)
part C pins: L7 PB8D (io), L8 PB11D (io), L9 PB12D (io), L10 PB18D (io), M6 PB11C (io), M7 PB9C (io), M8 PB16C (io), M9 PB18C (io), M10 PB21C (io), M11 PB19D (io), N6 PB8C (io), N7 PB9D (io), N8 PB12C (io), N9 PB16D (io), N10 PB19C (io), N11 PB21D (io), P4 PB3A (io), P5 PB5B (io), P6 PB8A, MCLK/CCLK (io), P7 PB9B (io), P8 PB12A (io), P9 PB16B, PCLKC2_1 (io), P10 PB19A (io), P11 PB21B (io), P12 PB24A (io), P13 PB25B, SI/SISPI/IO0/MD0/TDOR (io), R3 PB3D (io), R4 PB6D (io), R5 PB5A, CSSPIN/MD4/TDOB (io), R6 PB6B (io), R7 PB9A (io), R8 PB11B, PCLKC2_0 (io), R9 PB18A (io), R10 PB19B (io), R11 PB22A (io), R12 PB25A, SN/MD5/SCAN_SHFT_ENB/TDIB (io), R13 PB22C (io), R14 PB25D (io), T2 PB3C (io), T3 PB6C (io), T4 PB3B (io), T5 PB6A (io), T6 PB8B, SO/SPISO/IO1/MD1/TDIL (io), T7 PB11A, PCLKT2_0/INTEST_OVER (io), T8 PB12B (io), T9 PB16A, PCLKT2_1/INTEST_OVER (io), T10 PB18B (io), T11 PB21A (io), T12 PB22B (io), T13 PB24B (io), T14 PB22D (io), T15 PB25C (io)
part D pins: K4 PL11C (io), K5 PL12C (io), L1 PL11A (io), L2 PL12A, PCLKT3_0 (io), L3 PL11B (io), L4 PL12D (io), L5 PL11D (io), M1 PL12B, PCLKC3_0 (io), M2 PL14A (io), M3 PL13A (io), N1 PL13B (io), N2 PL13C (io), N3 PL14B (io), P1 PL13D (io), P2 PL14D (io), R1 PL14C (io)
part E pins: G1 PL6A (io), H1 PL7B (io), H2 PL6B (io), H3 PL7A (io), H4 PL6C (io), H5 PL9C (io), J1 PL7C, PCLKT4_0 (io), J2 PL9A (io), J3 PL7D, PCLKC4_0 (io), J4 PL9D (io), J5 PL10C (io), J6 PL6D (io), K1 PL9B (io), K2 PL10B (io), K3 PL10A (io), K6 PL10D (io)
part F pins: B1 PL1C (io), C1 PL2C (io), C2 PL1D (io), D1 PL1B, L_GPLLC_FB (io), D2 PL2D (io), D3 PL1A, L_GPLLT_FB (io), E1 PL3A, PCLKT5_0 (io), E2 PL2A, L_GPLLT_IN (io), E3 PL2B, L_GPLLC_IN (io), F1 PL4B (io), F2 PL3B, PCLKC5_0 (io), F3 PL4A (io), F4 PL3C (io), F5 PL5C (io), G2 PL5A (io), G3 PL5B (io), G4 PL4D (io), G5 PL4C (io), G6 PL3D (io), H6 PL5D (io)
part G pins: A1 VCC (power), A2 NC, A16 VCC (power), D5 VCCIO0 (power), D12 VCCIO0 (power), E4 VCCIO5 (power), E13 VCCIO1 (power), G7 VCC (power), G8 VCCIO0 (power), G9 VCCIO0 (power), G10 VCC (power), H7 VCCIO4 (power), H10 VCCIO1 (power), J7 VCCIO4 (power), J10 VCCIO1 (power), K7 VCC (power), K8 VCCIO2 (power), K9 VCCIO2 (power), K10 VCC (power), M4 VCCIO3 (power), M13 VCCIO1 (power), N5 VCCIO2 (power), N12 VCCIO2 (power), T1 VCC (power), T16 VCC (power)
part H pins: B2 GND (power), B15 GND (power), C3 GND (power), C14 GND (power), D4 GND (power), D13 GND (power), E5 GND (power), E12 GND (power), F6 GND (power), F11 GND (power), H8 GND (power), H9 GND (power), J8 GND (power), J9 GND (power), L6 GND (power), L11 GND (power), M5 GND (power), M12 GND (power), N4 GND (power), N13 GND (power), P3 GND (power), P14 GND (power), R2 GND (power), R15 GND (power)
part A text: BANK 0
part B text: BANK 1
part C text: BANK 2
part D text: BANK 3
part E text: BANK 4
part F text: BANK 5

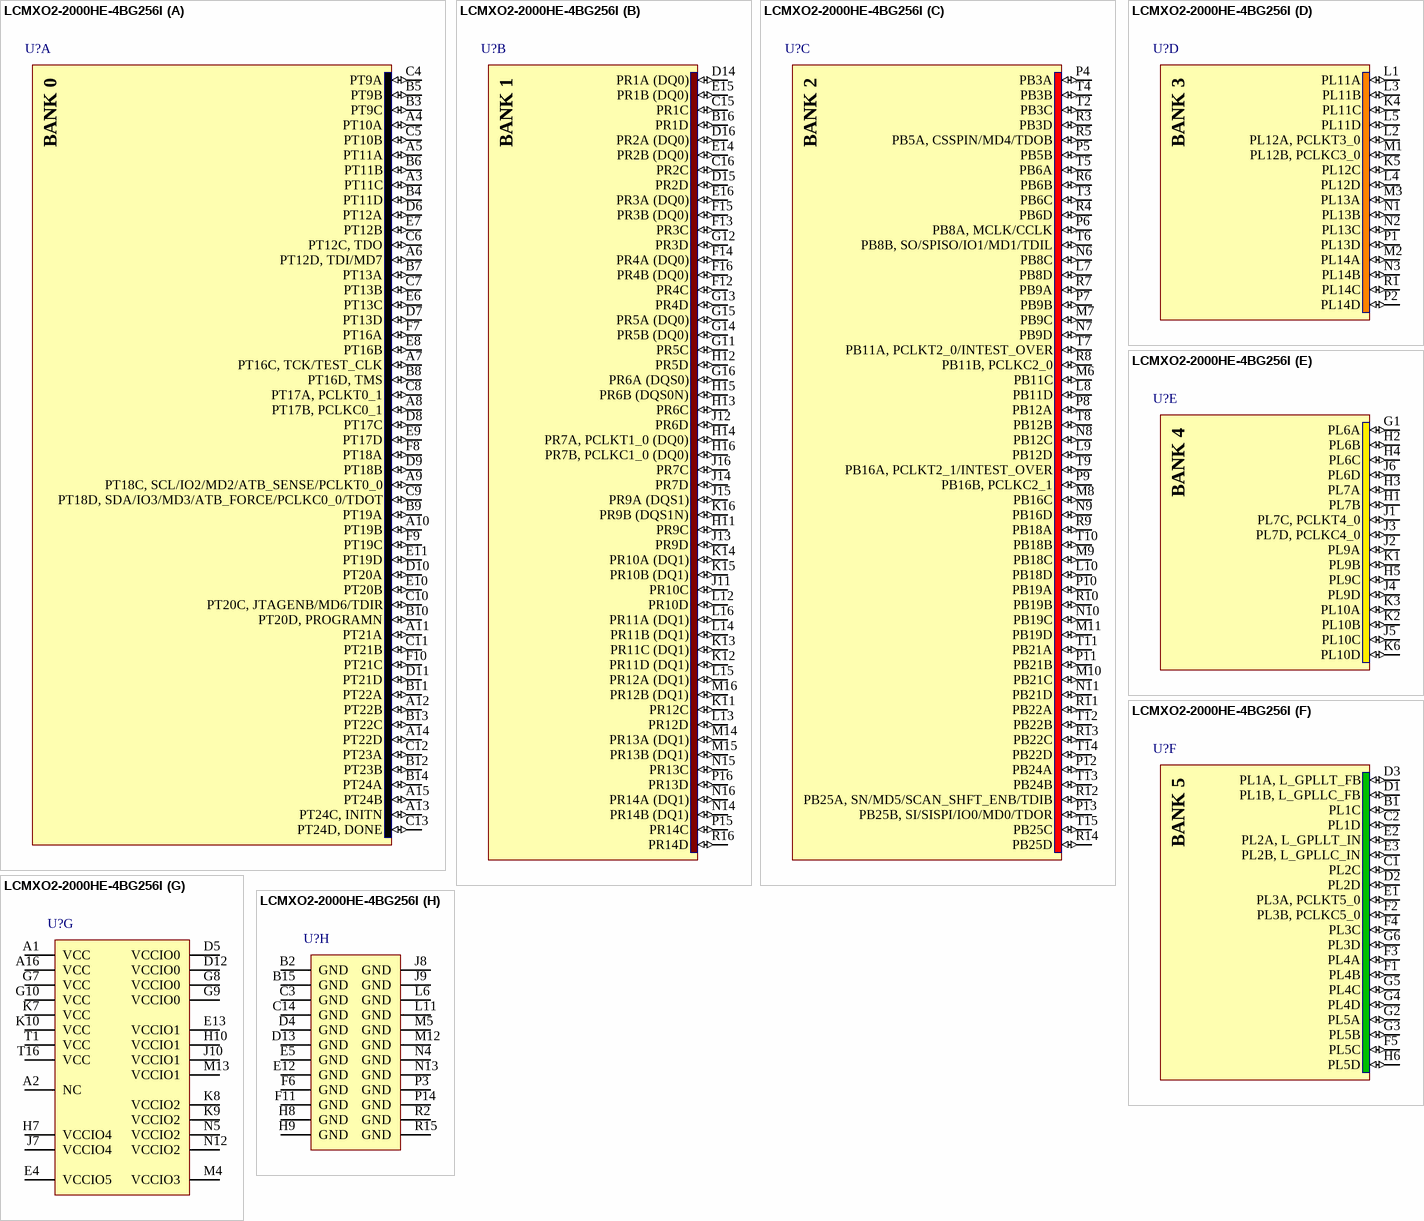
[diagram p80: symbol LCMXO2-2000HE-4BG256I]

## LCMXO2-2000HE-4BG256I
designator U?
MachXO2 High Performance CPLD with 2112 LUTs, 1.2V, 256-pin caBGA, Speed Grade-4, Industrial Grade, Halogen Free (RoHS); DatasheetVersion: ver01.5, Aug-2011; PackageVersion: ver02.8, Jul-2011; PackageReference: caBGA256; PackageDescription: 256-Ball caBGA Package, 14 x 14 mm Body, 0.8 mm Pitch; Code_JEDEC: MO-275-JJAB-2; ComponentLink1Description: Manufacturer URL; ComponentLink1URL: http://www.latticesemi.com/; ComponentLink2Description: Datasheet; ComponentLink2URL: http://www.latticesemi.com/documents/DS1035.pdf; ComponentLink3Description: Package Specification; ComponentLink3URL: http://www.latticesemi.com/lit/docs/package/pkg.pdf
footprint caBGA256 (BGA, 256-Leads, Body 14x14mm, Pitch 0.8mm, Nominal Pad Dia. 0.4mm, Lattice Recommended)
part A pins: A3 PT11C (io), A4 PT10A (io), A5 PT11A (io), A6 PT12D, TDI/MD7 (io), A7 PT16C, TCK/TEST_CLK (io), A8 PT17B, PCLKC0_1 (io), A9 PT18C, SCL/IO2/MD2/ATB_SENSE/PCLKT0_0 (io), A10 PT19B (io), A11 PT21A (io), A12 PT22B (io), A13 PT24C, INITN (io), A14 PT22D (io), A15 PT24B (io), B3 PT9C (io), B4 PT11D (io), B5 PT9B (io), B6 PT11B (io), B7 PT13A (io), B8 PT16D, TMS (io), B9 PT19A (io), B10 PT20D, PROGRAMN (io), B11 PT22A (io), B12 PT23B (io), B13 PT22C (io), B14 PT24A (io), C4 PT9A (io), C5 PT10B (io), C6 PT12C, TDO (io), C7 PT13B (io), C8 PT17A, PCLKT0_1 (io), C9 PT18D, SDA/IO3/MD3/ATB_FORCE/PCLKC0_0/TDOT (io), C10 PT20C, JTAGENB/MD6/TDIR (io), C11 PT21B (io), C12 PT23A (io), C13 PT24D, DONE (io), D6 PT12A (io), D7 PT13D (io), D8 PT17C (io), D9 PT18B (io), D10 PT20A (io), D11 PT21D (io), E6 PT13C (io), E7 PT12B (io), E8 PT16B (io), E9 PT17D (io), E10 PT20B (io), E11 PT19D (io), F7 PT16A (io), F8 PT18A (io), F9 PT19C (io), F10 PT21C (io)
part B pins: B16 PR1D (io), C15 PR1C (io), C16 PR2C (io), D14 PR1A (DQ0) (io), D15 PR2D (io), D16 PR2A (DQ0) (io), E14 PR2B (DQ0) (io), E15 PR1B (DQ0) (io), E16 PR3A (DQ0) (io), F12 PR4C (io), F13 PR3C (io), F14 PR4A (DQ0) (io), F15 PR3B (DQ0) (io), F16 PR4B (DQ0) (io), G11 PR5C (io), G12 PR3D (io), G13 PR4D (io), G14 PR5B (DQ0) (io), G15 PR5A (DQ0) (io), G16 PR6A (DQS0) (io), H11 PR9C (io), H12 PR5D (io), H13 PR6C (io), H14 PR7A, PCLKT1_0 (DQ0) (io), H15 PR6B (DQS0N) (io), H16 PR7B, PCLKC1_0 (DQ0) (io), J11 PR10C (io), J12 PR6D (io), J13 PR9D (io), J14 PR7D (io), J15 PR9A (DQS1) (io), J16 PR7C (io), K11 PR12C (io), K12 PR11D (DQ1) (io), K13 PR11C (DQ1) (io), K14 PR10A (DQ1) (io), K15 PR10B (DQ1) (io), K16 PR9B (DQS1N) (io), L12 PR10D (io), L13 PR12D (io), L14 PR11B (DQ1) (io), L15 PR12A (DQ1) (io), L16 PR11A (DQ1) (io), M14 PR13A (DQ1) (io), M15 PR13B (DQ1) (io), M16 PR12B (DQ1) (io), N14 PR14B (DQ1) (io), N15 PR13C (io), N16 PR14A (DQ1) (io), P15 PR14C (io), P16 PR13D (io), R16 PR14D (io)
part C pins: L7 PB8D (io), L8 PB11D (io), L9 PB12D (io), L10 PB18D (io), M6 PB11C (io), M7 PB9C (io), M8 PB16C (io), M9 PB18C (io), M10 PB21C (io), M11 PB19D (io), N6 PB8C (io), N7 PB9D (io), N8 PB12C (io), N9 PB16D (io), N10 PB19C (io), N11 PB21D (io), P4 PB3A (io), P5 PB5B (io), P6 PB8A, MCLK/CCLK (io), P7 PB9B (io), P8 PB12A (io), P9 PB16B, PCLKC2_1 (io), P10 PB19A (io), P11 PB21B (io), P12 PB24A (io), P13 PB25B, SI/SISPI/IO0/MD0/TDOR (io), R3 PB3D (io), R4 PB6D (io), R5 PB5A, CSSPIN/MD4/TDOB (io), R6 PB6B (io), R7 PB9A (io), R8 PB11B, PCLKC2_0 (io), R9 PB18A (io), R10 PB19B (io), R11 PB22A (io), R12 PB25A, SN/MD5/SCAN_SHFT_ENB/TDIB (io), R13 PB22C (io), R14 PB25D (io), T2 PB3C (io), T3 PB6C (io), T4 PB3B (io), T5 PB6A (io), T6 PB8B, SO/SPISO/IO1/MD1/TDIL (io), T7 PB11A, PCLKT2_0/INTEST_OVER (io), T8 PB12B (io), T9 PB16A, PCLKT2_1/INTEST_OVER (io), T10 PB18B (io), T11 PB21A (io), T12 PB22B (io), T13 PB24B (io), T14 PB22D (io), T15 PB25C (io)
part D pins: K4 PL11C (io), K5 PL12C (io), L1 PL11A (io), L2 PL12A, PCLKT3_0 (io), L3 PL11B (io), L4 PL12D (io), L5 PL11D (io), M1 PL12B, PCLKC3_0 (io), M2 PL14A (io), M3 PL13A (io), N1 PL13B (io), N2 PL13C (io), N3 PL14B (io), P1 PL13D (io), P2 PL14D (io), R1 PL14C (io)
part E pins: G1 PL6A (io), H1 PL7B (io), H2 PL6B (io), H3 PL7A (io), H4 PL6C (io), H5 PL9C (io), J1 PL7C, PCLKT4_0 (io), J2 PL9A (io), J3 PL7D, PCLKC4_0 (io), J4 PL9D (io), J5 PL10C (io), J6 PL6D (io), K1 PL9B (io), K2 PL10B (io), K3 PL10A (io), K6 PL10D (io)
part F pins: B1 PL1C (io), C1 PL2C (io), C2 PL1D (io), D1 PL1B, L_GPLLC_FB (io), D2 PL2D (io), D3 PL1A, L_GPLLT_FB (io), E1 PL3A, PCLKT5_0 (io), E2 PL2A, L_GPLLT_IN (io), E3 PL2B, L_GPLLC_IN (io), F1 PL4B (io), F2 PL3B, PCLKC5_0 (io), F3 PL4A (io), F4 PL3C (io), F5 PL5C (io), G2 PL5A (io), G3 PL5B (io), G4 PL4D (io), G5 PL4C (io), G6 PL3D (io), H6 PL5D (io)
part G pins: A1 VCC (power), A2 NC, A16 VCC (power), D5 VCCIO0 (power), D12 VCCIO0 (power), E4 VCCIO5 (power), E13 VCCIO1 (power), G7 VCC (power), G8 VCCIO0 (power), G9 VCCIO0 (power), G10 VCC (power), H7 VCCIO4 (power), H10 VCCIO1 (power), J7 VCCIO4 (power), J10 VCCIO1 (power), K7 VCC (power), K8 VCCIO2 (power), K9 VCCIO2 (power), K10 VCC (power), M4 VCCIO3 (power), M13 VCCIO1 (power), N5 VCCIO2 (power), N12 VCCIO2 (power), T1 VCC (power), T16 VCC (power)
part H pins: B2 GND (power), B15 GND (power), C3 GND (power), C14 GND (power), D4 GND (power), D13 GND (power), E5 GND (power), E12 GND (power), F6 GND (power), F11 GND (power), H8 GND (power), H9 GND (power), J8 GND (power), J9 GND (power), L6 GND (power), L11 GND (power), M5 GND (power), M12 GND (power), N4 GND (power), N13 GND (power), P3 GND (power), P14 GND (power), R2 GND (power), R15 GND (power)
part A text: BANK 0
part B text: BANK 1
part C text: BANK 2
part D text: BANK 3
part E text: BANK 4
part F text: BANK 5

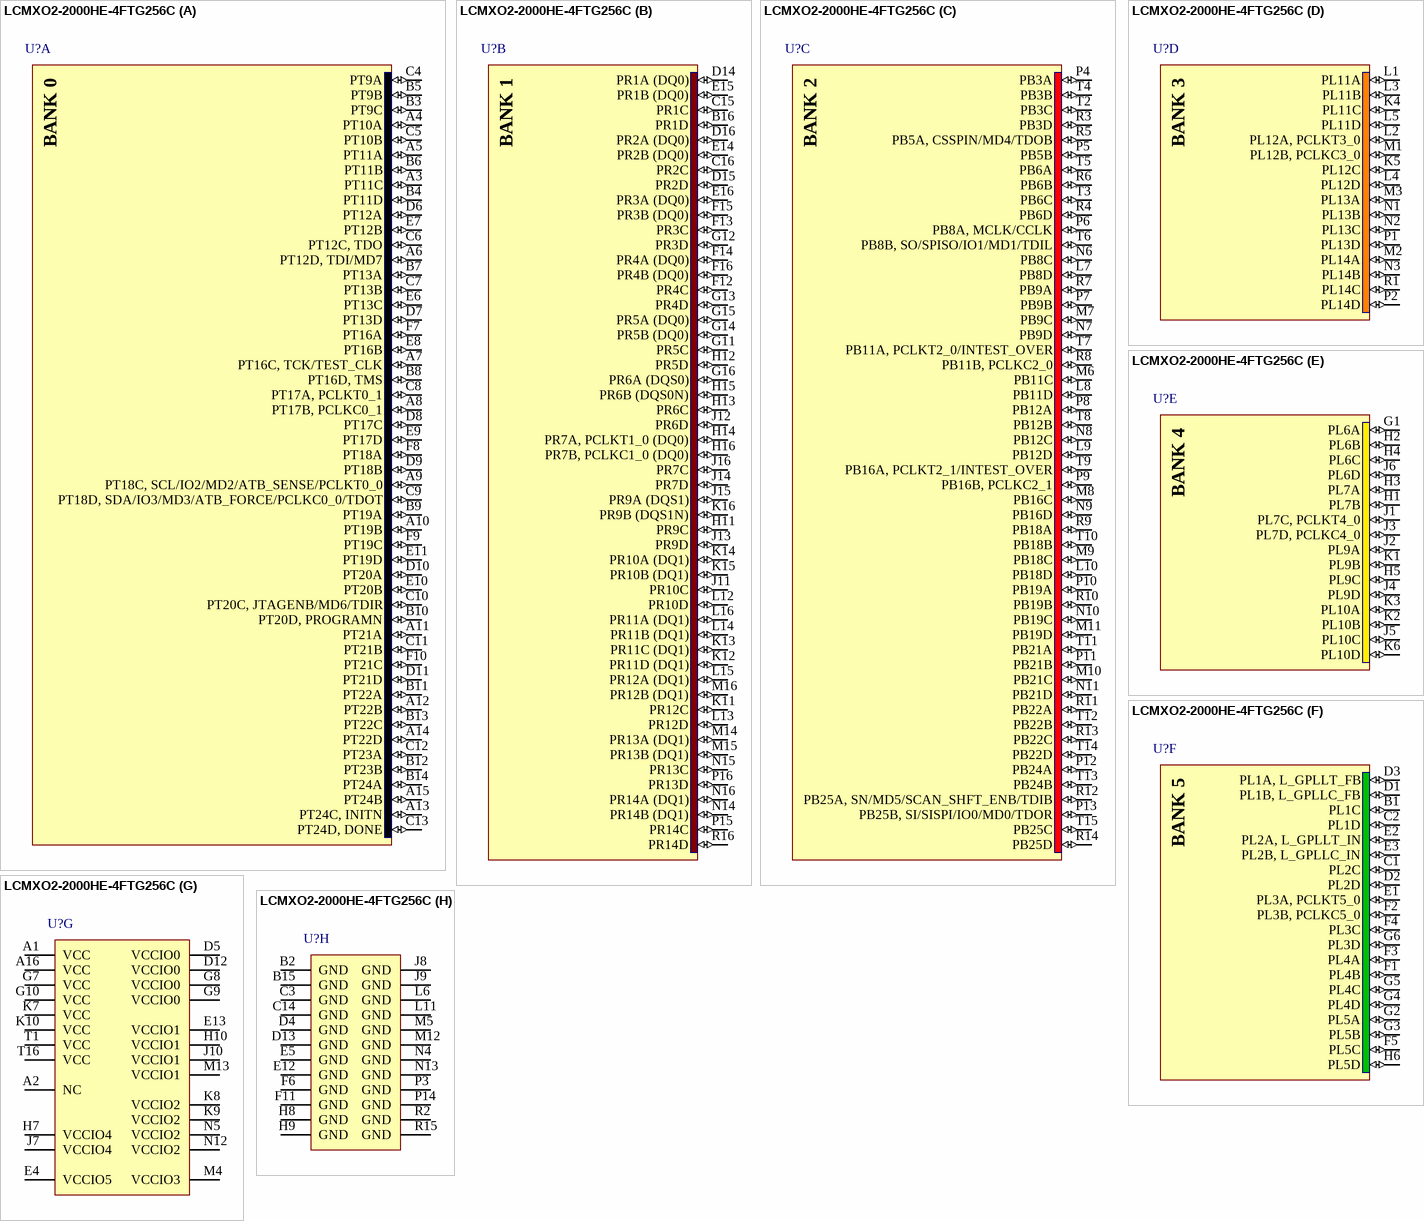
[diagram p81: symbol LCMXO2-2000HE-4FTG256C]

## LCMXO2-2000HE-4FTG256C
designator U?
MachXO2 High Performance CPLD with 2112 LUTs, 1.2V, 256-pin ftBGA, Speed Grade-4, Commercial Grade, Halogen Free (RoHS); DatasheetVersion: ver01.5, Aug-2011; PackageVersion: ver02.8, Jul-2011; PackageReference: ftBGA256; PackageDescription: 256-Ball Fine Thin Ball Grid Array (ftBGA256); ComponentLink1Description: Manufacturer URL; ComponentLink1URL: http://www.latticesemi.com/; ComponentLink2Description: Datasheet; ComponentLink2URL: http://www.latticesemi.com/documents/DS1035.pdf; ComponentLink3Description: Package Specification; ComponentLink3URL: http://www.latticesemi.com/lit/docs/package/pkg.pdf
footprint ftBGA256 (BGA, 256-Leads, Body 17x17mm, Pitch 1mm)
part A pins: A3 PT11C (io), A4 PT10A (io), A5 PT11A (io), A6 PT12D, TDI/MD7 (io), A7 PT16C, TCK/TEST_CLK (io), A8 PT17B, PCLKC0_1 (io), A9 PT18C, SCL/IO2/MD2/ATB_SENSE/PCLKT0_0 (io), A10 PT19B (io), A11 PT21A (io), A12 PT22B (io), A13 PT24C, INITN (io), A14 PT22D (io), A15 PT24B (io), B3 PT9C (io), B4 PT11D (io), B5 PT9B (io), B6 PT11B (io), B7 PT13A (io), B8 PT16D, TMS (io), B9 PT19A (io), B10 PT20D, PROGRAMN (io), B11 PT22A (io), B12 PT23B (io), B13 PT22C (io), B14 PT24A (io), C4 PT9A (io), C5 PT10B (io), C6 PT12C, TDO (io), C7 PT13B (io), C8 PT17A, PCLKT0_1 (io), C9 PT18D, SDA/IO3/MD3/ATB_FORCE/PCLKC0_0/TDOT (io), C10 PT20C, JTAGENB/MD6/TDIR (io), C11 PT21B (io), C12 PT23A (io), C13 PT24D, DONE (io), D6 PT12A (io), D7 PT13D (io), D8 PT17C (io), D9 PT18B (io), D10 PT20A (io), D11 PT21D (io), E6 PT13C (io), E7 PT12B (io), E8 PT16B (io), E9 PT17D (io), E10 PT20B (io), E11 PT19D (io), F7 PT16A (io), F8 PT18A (io), F9 PT19C (io), F10 PT21C (io)
part B pins: B16 PR1D (io), C15 PR1C (io), C16 PR2C (io), D14 PR1A (DQ0) (io), D15 PR2D (io), D16 PR2A (DQ0) (io), E14 PR2B (DQ0) (io), E15 PR1B (DQ0) (io), E16 PR3A (DQ0) (io), F12 PR4C (io), F13 PR3C (io), F14 PR4A (DQ0) (io), F15 PR3B (DQ0) (io), F16 PR4B (DQ0) (io), G11 PR5C (io), G12 PR3D (io), G13 PR4D (io), G14 PR5B (DQ0) (io), G15 PR5A (DQ0) (io), G16 PR6A (DQS0) (io), H11 PR9C (io), H12 PR5D (io), H13 PR6C (io), H14 PR7A, PCLKT1_0 (DQ0) (io), H15 PR6B (DQS0N) (io), H16 PR7B, PCLKC1_0 (DQ0) (io), J11 PR10C (io), J12 PR6D (io), J13 PR9D (io), J14 PR7D (io), J15 PR9A (DQS1) (io), J16 PR7C (io), K11 PR12C (io), K12 PR11D (DQ1) (io), K13 PR11C (DQ1) (io), K14 PR10A (DQ1) (io), K15 PR10B (DQ1) (io), K16 PR9B (DQS1N) (io), L12 PR10D (io), L13 PR12D (io), L14 PR11B (DQ1) (io), L15 PR12A (DQ1) (io), L16 PR11A (DQ1) (io), M14 PR13A (DQ1) (io), M15 PR13B (DQ1) (io), M16 PR12B (DQ1) (io), N14 PR14B (DQ1) (io), N15 PR13C (io), N16 PR14A (DQ1) (io), P15 PR14C (io), P16 PR13D (io), R16 PR14D (io)
part C pins: L7 PB8D (io), L8 PB11D (io), L9 PB12D (io), L10 PB18D (io), M6 PB11C (io), M7 PB9C (io), M8 PB16C (io), M9 PB18C (io), M10 PB21C (io), M11 PB19D (io), N6 PB8C (io), N7 PB9D (io), N8 PB12C (io), N9 PB16D (io), N10 PB19C (io), N11 PB21D (io), P4 PB3A (io), P5 PB5B (io), P6 PB8A, MCLK/CCLK (io), P7 PB9B (io), P8 PB12A (io), P9 PB16B, PCLKC2_1 (io), P10 PB19A (io), P11 PB21B (io), P12 PB24A (io), P13 PB25B, SI/SISPI/IO0/MD0/TDOR (io), R3 PB3D (io), R4 PB6D (io), R5 PB5A, CSSPIN/MD4/TDOB (io), R6 PB6B (io), R7 PB9A (io), R8 PB11B, PCLKC2_0 (io), R9 PB18A (io), R10 PB19B (io), R11 PB22A (io), R12 PB25A, SN/MD5/SCAN_SHFT_ENB/TDIB (io), R13 PB22C (io), R14 PB25D (io), T2 PB3C (io), T3 PB6C (io), T4 PB3B (io), T5 PB6A (io), T6 PB8B, SO/SPISO/IO1/MD1/TDIL (io), T7 PB11A, PCLKT2_0/INTEST_OVER (io), T8 PB12B (io), T9 PB16A, PCLKT2_1/INTEST_OVER (io), T10 PB18B (io), T11 PB21A (io), T12 PB22B (io), T13 PB24B (io), T14 PB22D (io), T15 PB25C (io)
part D pins: K4 PL11C (io), K5 PL12C (io), L1 PL11A (io), L2 PL12A, PCLKT3_0 (io), L3 PL11B (io), L4 PL12D (io), L5 PL11D (io), M1 PL12B, PCLKC3_0 (io), M2 PL14A (io), M3 PL13A (io), N1 PL13B (io), N2 PL13C (io), N3 PL14B (io), P1 PL13D (io), P2 PL14D (io), R1 PL14C (io)
part E pins: G1 PL6A (io), H1 PL7B (io), H2 PL6B (io), H3 PL7A (io), H4 PL6C (io), H5 PL9C (io), J1 PL7C, PCLKT4_0 (io), J2 PL9A (io), J3 PL7D, PCLKC4_0 (io), J4 PL9D (io), J5 PL10C (io), J6 PL6D (io), K1 PL9B (io), K2 PL10B (io), K3 PL10A (io), K6 PL10D (io)
part F pins: B1 PL1C (io), C1 PL2C (io), C2 PL1D (io), D1 PL1B, L_GPLLC_FB (io), D2 PL2D (io), D3 PL1A, L_GPLLT_FB (io), E1 PL3A, PCLKT5_0 (io), E2 PL2A, L_GPLLT_IN (io), E3 PL2B, L_GPLLC_IN (io), F1 PL4B (io), F2 PL3B, PCLKC5_0 (io), F3 PL4A (io), F4 PL3C (io), F5 PL5C (io), G2 PL5A (io), G3 PL5B (io), G4 PL4D (io), G5 PL4C (io), G6 PL3D (io), H6 PL5D (io)
part G pins: A1 VCC (power), A2 NC, A16 VCC (power), D5 VCCIO0 (power), D12 VCCIO0 (power), E4 VCCIO5 (power), E13 VCCIO1 (power), G7 VCC (power), G8 VCCIO0 (power), G9 VCCIO0 (power), G10 VCC (power), H7 VCCIO4 (power), H10 VCCIO1 (power), J7 VCCIO4 (power), J10 VCCIO1 (power), K7 VCC (power), K8 VCCIO2 (power), K9 VCCIO2 (power), K10 VCC (power), M4 VCCIO3 (power), M13 VCCIO1 (power), N5 VCCIO2 (power), N12 VCCIO2 (power), T1 VCC (power), T16 VCC (power)
part H pins: B2 GND (power), B15 GND (power), C3 GND (power), C14 GND (power), D4 GND (power), D13 GND (power), E5 GND (power), E12 GND (power), F6 GND (power), F11 GND (power), H8 GND (power), H9 GND (power), J8 GND (power), J9 GND (power), L6 GND (power), L11 GND (power), M5 GND (power), M12 GND (power), N4 GND (power), N13 GND (power), P3 GND (power), P14 GND (power), R2 GND (power), R15 GND (power)
part A text: BANK 0
part B text: BANK 1
part C text: BANK 2
part D text: BANK 3
part E text: BANK 4
part F text: BANK 5

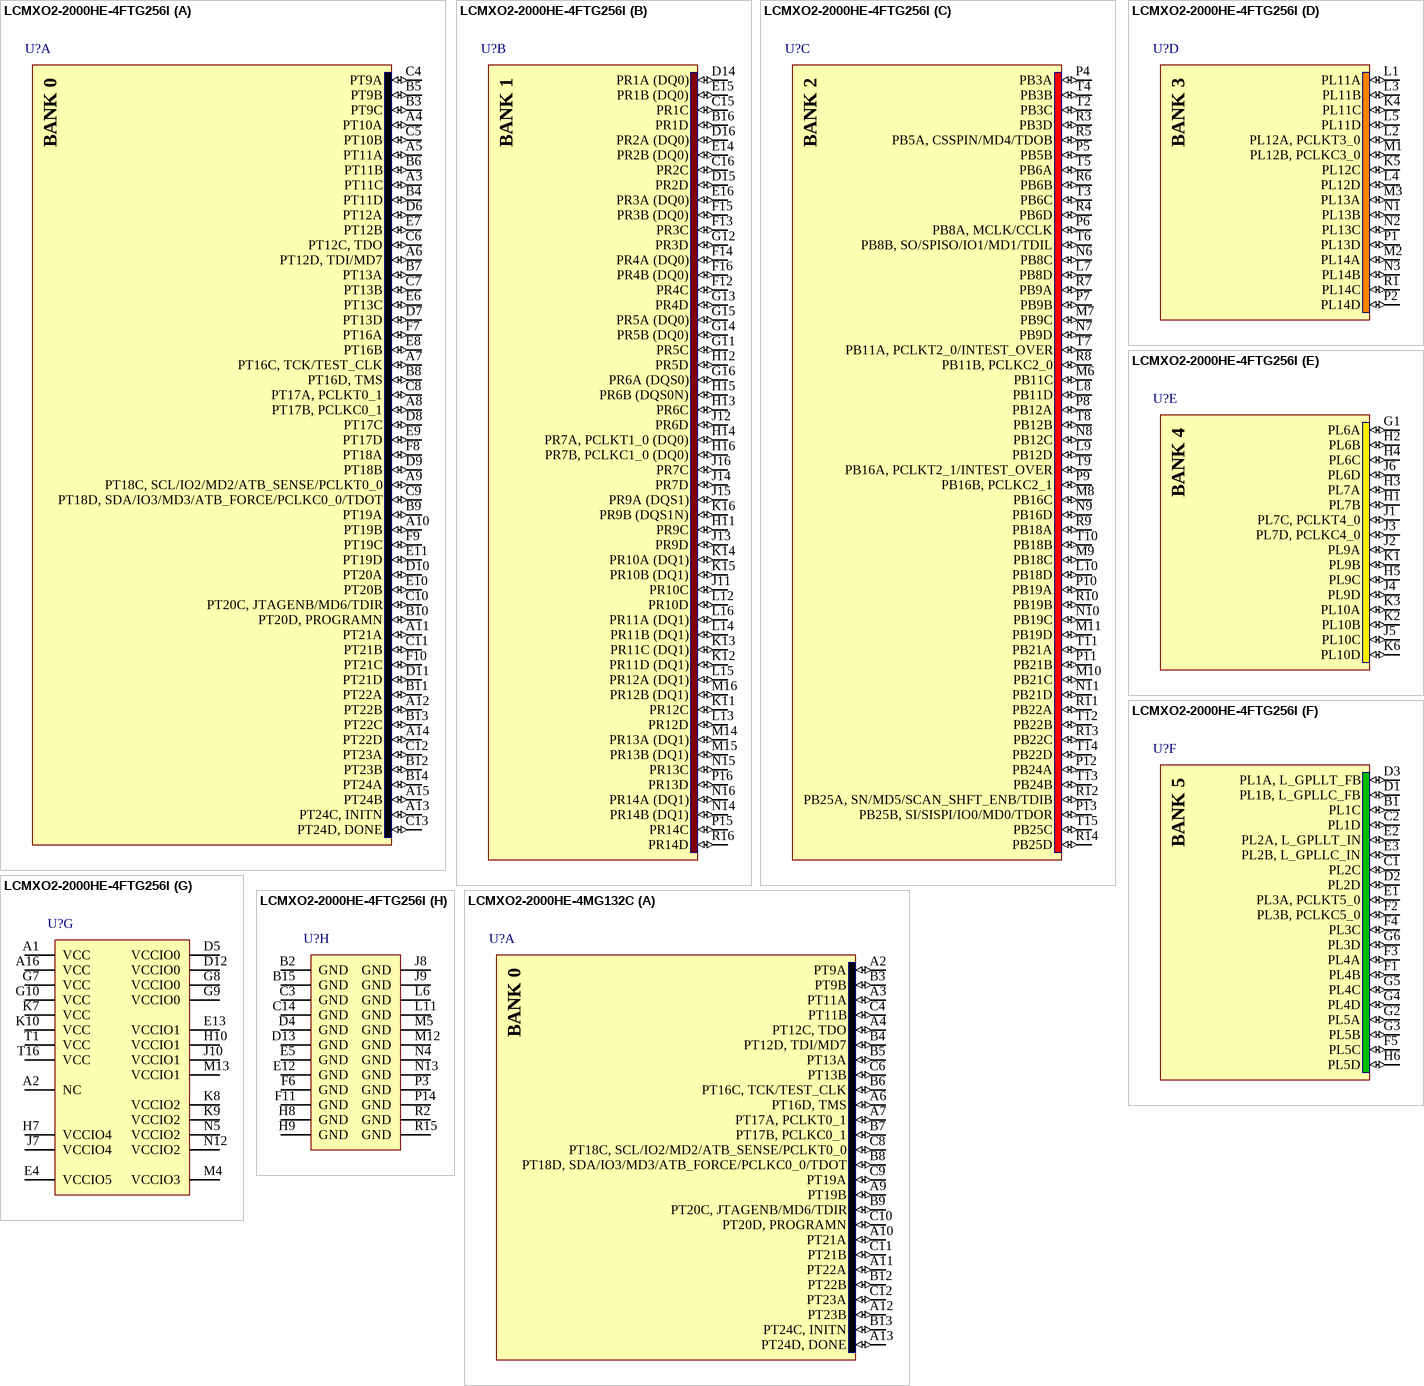
[diagram p82: symbols LCMXO2-2000HE-4FTG256I to LCMXO2-2000HE-4MG132C]

## LCMXO2-2000HE-4FTG256I
designator U?
MachXO2 High Performance CPLD with 2112 LUTs, 1.2V, 256-pin ftBGA, Speed Grade-4, Industrial Grade, Halogen Free (RoHS); DatasheetVersion: ver01.5, Aug-2011; PackageVersion: ver02.8, Jul-2011; PackageReference: ftBGA256; PackageDescription: 256-Ball Fine Thin Ball Grid Array (ftBGA256); ComponentLink1Description: Manufacturer URL; ComponentLink1URL: http://www.latticesemi.com/; ComponentLink2Description: Datasheet; ComponentLink2URL: http://www.latticesemi.com/documents/DS1035.pdf; ComponentLink3Description: Package Specification; ComponentLink3URL: http://www.latticesemi.com/lit/docs/package/pkg.pdf
footprint ftBGA256 (BGA, 256-Leads, Body 17x17mm, Pitch 1mm)
part A pins: A3 PT11C (io), A4 PT10A (io), A5 PT11A (io), A6 PT12D, TDI/MD7 (io), A7 PT16C, TCK/TEST_CLK (io), A8 PT17B, PCLKC0_1 (io), A9 PT18C, SCL/IO2/MD2/ATB_SENSE/PCLKT0_0 (io), A10 PT19B (io), A11 PT21A (io), A12 PT22B (io), A13 PT24C, INITN (io), A14 PT22D (io), A15 PT24B (io), B3 PT9C (io), B4 PT11D (io), B5 PT9B (io), B6 PT11B (io), B7 PT13A (io), B8 PT16D, TMS (io), B9 PT19A (io), B10 PT20D, PROGRAMN (io), B11 PT22A (io), B12 PT23B (io), B13 PT22C (io), B14 PT24A (io), C4 PT9A (io), C5 PT10B (io), C6 PT12C, TDO (io), C7 PT13B (io), C8 PT17A, PCLKT0_1 (io), C9 PT18D, SDA/IO3/MD3/ATB_FORCE/PCLKC0_0/TDOT (io), C10 PT20C, JTAGENB/MD6/TDIR (io), C11 PT21B (io), C12 PT23A (io), C13 PT24D, DONE (io), D6 PT12A (io), D7 PT13D (io), D8 PT17C (io), D9 PT18B (io), D10 PT20A (io), D11 PT21D (io), E6 PT13C (io), E7 PT12B (io), E8 PT16B (io), E9 PT17D (io), E10 PT20B (io), E11 PT19D (io), F7 PT16A (io), F8 PT18A (io), F9 PT19C (io), F10 PT21C (io)
part B pins: B16 PR1D (io), C15 PR1C (io), C16 PR2C (io), D14 PR1A (DQ0) (io), D15 PR2D (io), D16 PR2A (DQ0) (io), E14 PR2B (DQ0) (io), E15 PR1B (DQ0) (io), E16 PR3A (DQ0) (io), F12 PR4C (io), F13 PR3C (io), F14 PR4A (DQ0) (io), F15 PR3B (DQ0) (io), F16 PR4B (DQ0) (io), G11 PR5C (io), G12 PR3D (io), G13 PR4D (io), G14 PR5B (DQ0) (io), G15 PR5A (DQ0) (io), G16 PR6A (DQS0) (io), H11 PR9C (io), H12 PR5D (io), H13 PR6C (io), H14 PR7A, PCLKT1_0 (DQ0) (io), H15 PR6B (DQS0N) (io), H16 PR7B, PCLKC1_0 (DQ0) (io), J11 PR10C (io), J12 PR6D (io), J13 PR9D (io), J14 PR7D (io), J15 PR9A (DQS1) (io), J16 PR7C (io), K11 PR12C (io), K12 PR11D (DQ1) (io), K13 PR11C (DQ1) (io), K14 PR10A (DQ1) (io), K15 PR10B (DQ1) (io), K16 PR9B (DQS1N) (io), L12 PR10D (io), L13 PR12D (io), L14 PR11B (DQ1) (io), L15 PR12A (DQ1) (io), L16 PR11A (DQ1) (io), M14 PR13A (DQ1) (io), M15 PR13B (DQ1) (io), M16 PR12B (DQ1) (io), N14 PR14B (DQ1) (io), N15 PR13C (io), N16 PR14A (DQ1) (io), P15 PR14C (io), P16 PR13D (io), R16 PR14D (io)
part C pins: L7 PB8D (io), L8 PB11D (io), L9 PB12D (io), L10 PB18D (io), M6 PB11C (io), M7 PB9C (io), M8 PB16C (io), M9 PB18C (io), M10 PB21C (io), M11 PB19D (io), N6 PB8C (io), N7 PB9D (io), N8 PB12C (io), N9 PB16D (io), N10 PB19C (io), N11 PB21D (io), P4 PB3A (io), P5 PB5B (io), P6 PB8A, MCLK/CCLK (io), P7 PB9B (io), P8 PB12A (io), P9 PB16B, PCLKC2_1 (io), P10 PB19A (io), P11 PB21B (io), P12 PB24A (io), P13 PB25B, SI/SISPI/IO0/MD0/TDOR (io), R3 PB3D (io), R4 PB6D (io), R5 PB5A, CSSPIN/MD4/TDOB (io), R6 PB6B (io), R7 PB9A (io), R8 PB11B, PCLKC2_0 (io), R9 PB18A (io), R10 PB19B (io), R11 PB22A (io), R12 PB25A, SN/MD5/SCAN_SHFT_ENB/TDIB (io), R13 PB22C (io), R14 PB25D (io), T2 PB3C (io), T3 PB6C (io), T4 PB3B (io), T5 PB6A (io), T6 PB8B, SO/SPISO/IO1/MD1/TDIL (io), T7 PB11A, PCLKT2_0/INTEST_OVER (io), T8 PB12B (io), T9 PB16A, PCLKT2_1/INTEST_OVER (io), T10 PB18B (io), T11 PB21A (io), T12 PB22B (io), T13 PB24B (io), T14 PB22D (io), T15 PB25C (io)
part D pins: K4 PL11C (io), K5 PL12C (io), L1 PL11A (io), L2 PL12A, PCLKT3_0 (io), L3 PL11B (io), L4 PL12D (io), L5 PL11D (io), M1 PL12B, PCLKC3_0 (io), M2 PL14A (io), M3 PL13A (io), N1 PL13B (io), N2 PL13C (io), N3 PL14B (io), P1 PL13D (io), P2 PL14D (io), R1 PL14C (io)
part E pins: G1 PL6A (io), H1 PL7B (io), H2 PL6B (io), H3 PL7A (io), H4 PL6C (io), H5 PL9C (io), J1 PL7C, PCLKT4_0 (io), J2 PL9A (io), J3 PL7D, PCLKC4_0 (io), J4 PL9D (io), J5 PL10C (io), J6 PL6D (io), K1 PL9B (io), K2 PL10B (io), K3 PL10A (io), K6 PL10D (io)
part F pins: B1 PL1C (io), C1 PL2C (io), C2 PL1D (io), D1 PL1B, L_GPLLC_FB (io), D2 PL2D (io), D3 PL1A, L_GPLLT_FB (io), E1 PL3A, PCLKT5_0 (io), E2 PL2A, L_GPLLT_IN (io), E3 PL2B, L_GPLLC_IN (io), F1 PL4B (io), F2 PL3B, PCLKC5_0 (io), F3 PL4A (io), F4 PL3C (io), F5 PL5C (io), G2 PL5A (io), G3 PL5B (io), G4 PL4D (io), G5 PL4C (io), G6 PL3D (io), H6 PL5D (io)
part G pins: A1 VCC (power), A2 NC, A16 VCC (power), D5 VCCIO0 (power), D12 VCCIO0 (power), E4 VCCIO5 (power), E13 VCCIO1 (power), G7 VCC (power), G8 VCCIO0 (power), G9 VCCIO0 (power), G10 VCC (power), H7 VCCIO4 (power), H10 VCCIO1 (power), J7 VCCIO4 (power), J10 VCCIO1 (power), K7 VCC (power), K8 VCCIO2 (power), K9 VCCIO2 (power), K10 VCC (power), M4 VCCIO3 (power), M13 VCCIO1 (power), N5 VCCIO2 (power), N12 VCCIO2 (power), T1 VCC (power), T16 VCC (power)
part H pins: B2 GND (power), B15 GND (power), C3 GND (power), C14 GND (power), D4 GND (power), D13 GND (power), E5 GND (power), E12 GND (power), F6 GND (power), F11 GND (power), H8 GND (power), H9 GND (power), J8 GND (power), J9 GND (power), L6 GND (power), L11 GND (power), M5 GND (power), M12 GND (power), N4 GND (power), N13 GND (power), P3 GND (power), P14 GND (power), R2 GND (power), R15 GND (power)
part A text: BANK 0
part B text: BANK 1
part C text: BANK 2
part D text: BANK 3
part E text: BANK 4
part F text: BANK 5

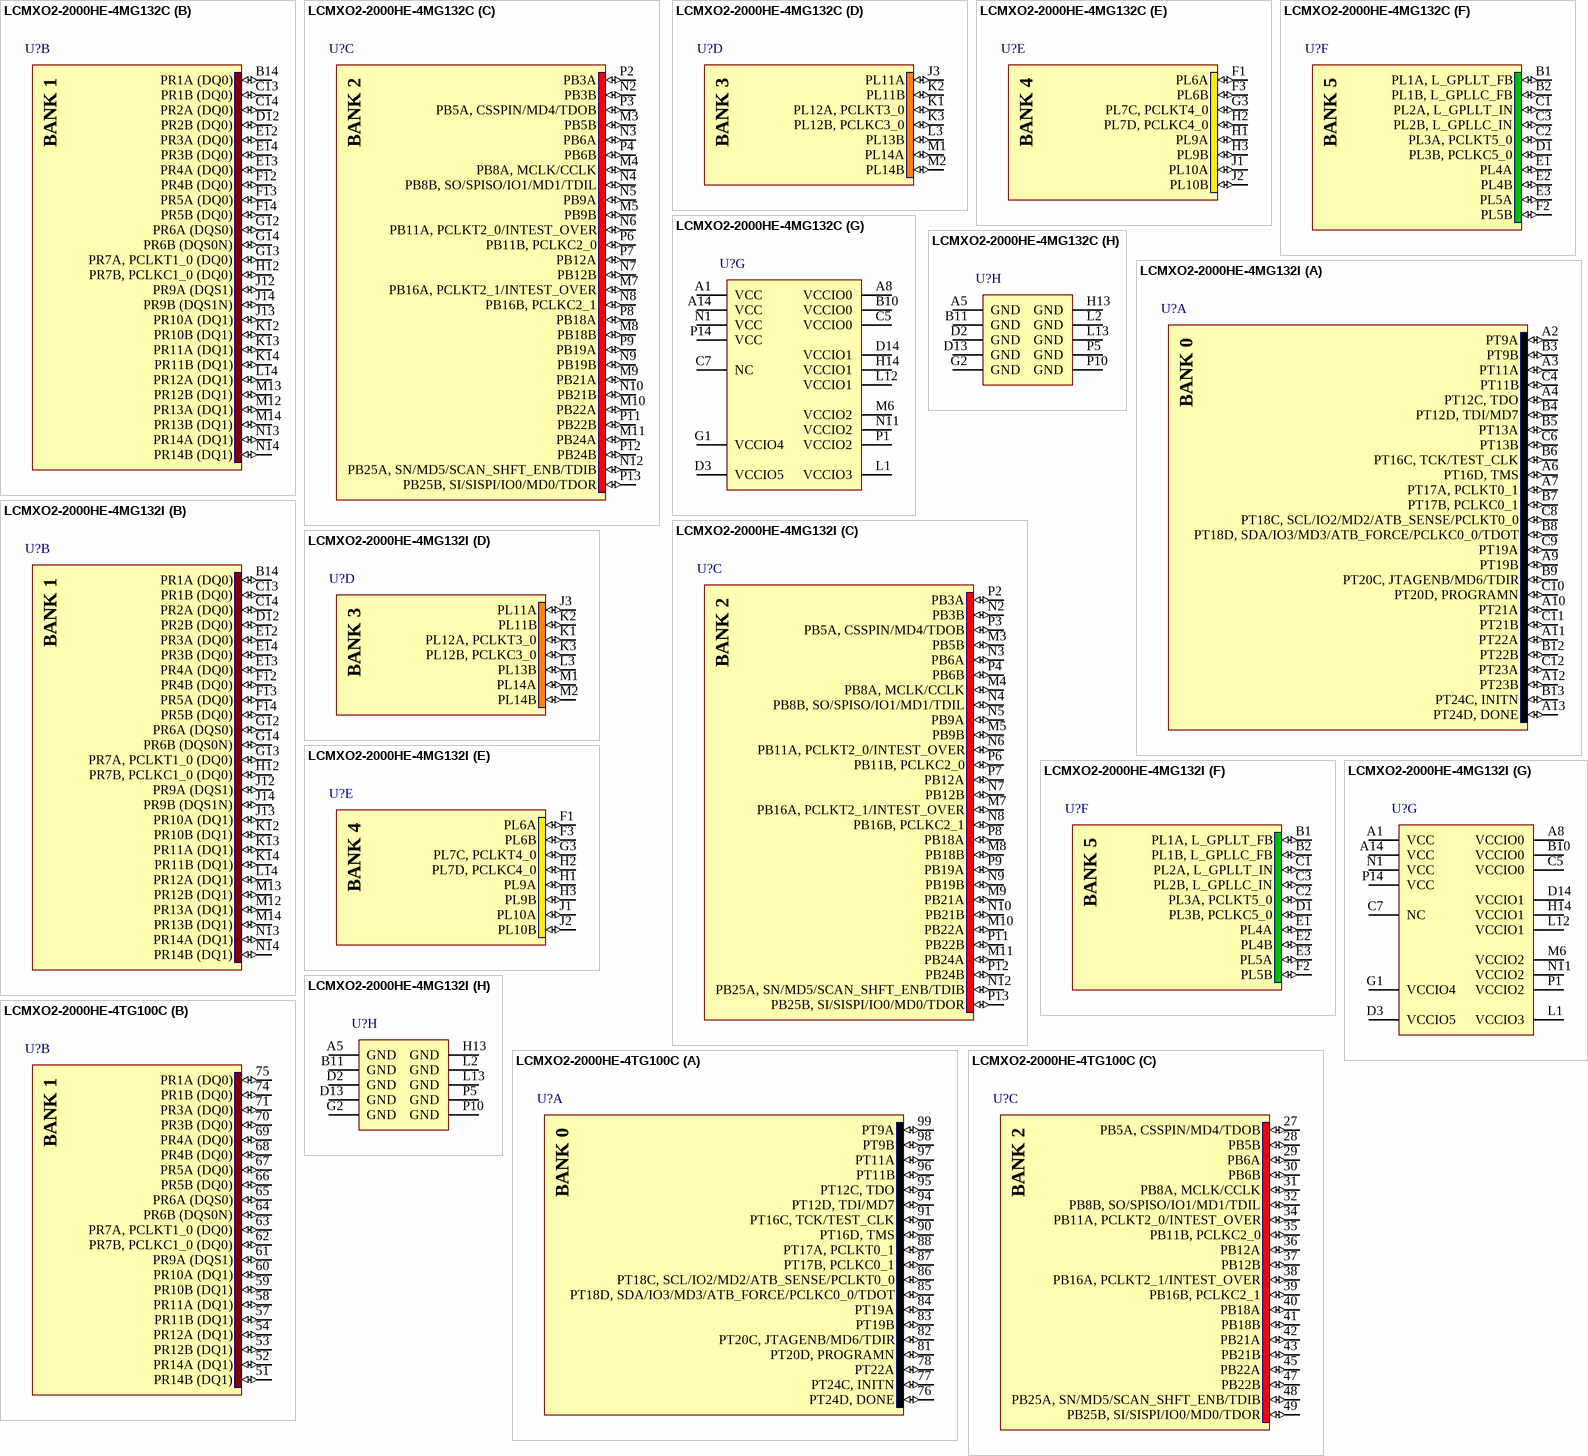
[diagram p83: symbols LCMXO2-2000HE-4MG132C to LCMXO2-2000HE-4TG100C]